# Altium schematic symbol library Connector.SchLib: 365 symbols (part 2 of 4)
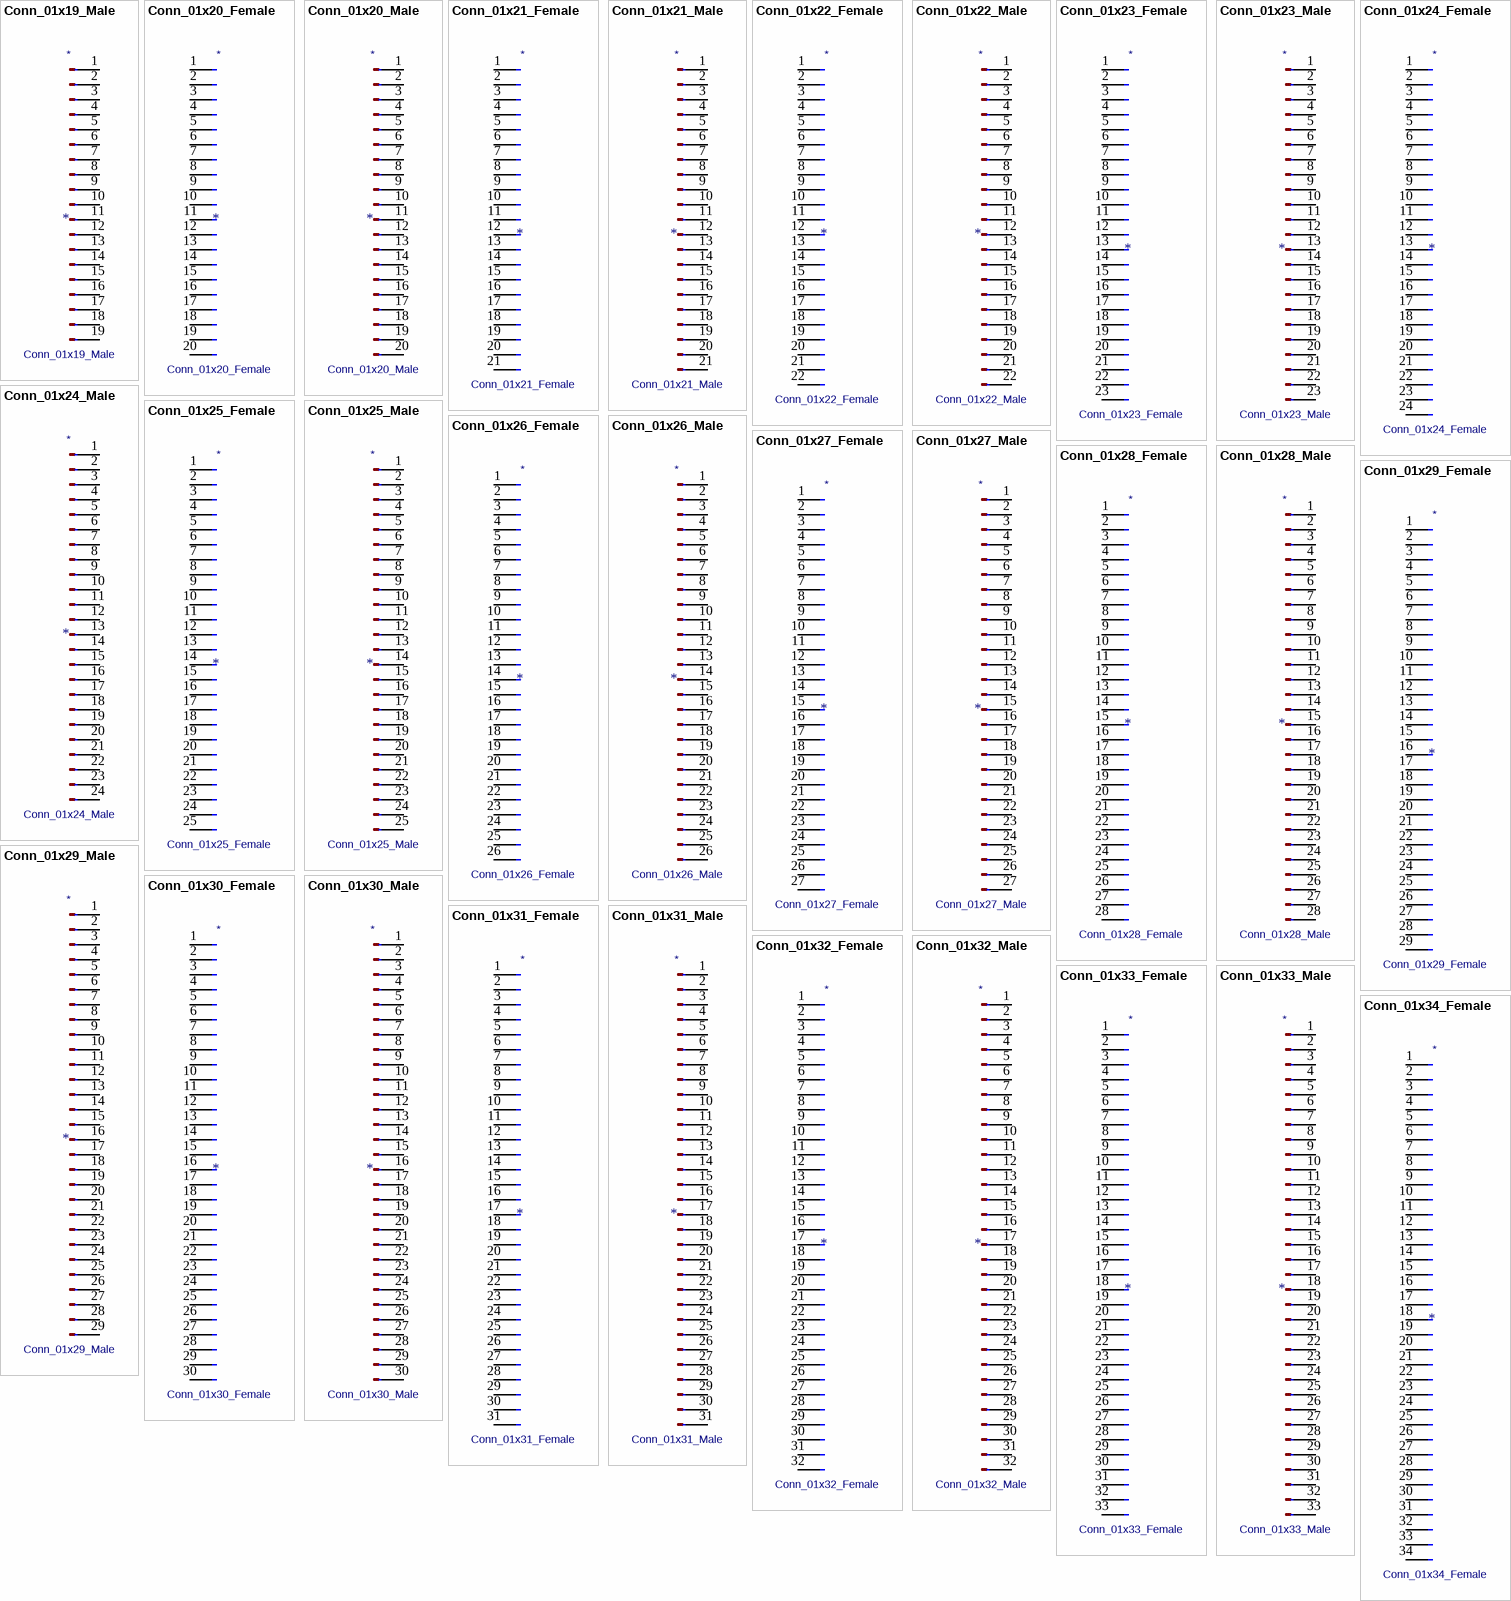
[diagram p15: symbols Conn_01x19_Male to Conn_01x34_Female]

## Conn_01x19_Male
designator *  value Conn_01x19_Male
ki_keywords: connector; ki_description: Generic connector, single row, 01x19, script generated (kicad-library-utils/schlib/autogen/connector/); ki_fp_filters: Connector*:*_1x??_*; Supplier: ~
pins: 1 Pin_1, 2 Pin_2, 3 Pin_3, 4 Pin_4, 5 Pin_5, 6 Pin_6, 7 Pin_7, 8 Pin_8, 9 Pin_9, 10 Pin_10, 11 Pin_11, 12 Pin_12, 13 Pin_13, 14 Pin_14, 15 Pin_15, 16 Pin_16, 17 Pin_17, 18 Pin_18, 19 Pin_19

## Conn_01x20_Female
designator *  value Conn_01x20_Female
ki_keywords: connector; ki_description: Generic connector, single row, 01x20, script generated (kicad-library-utils/schlib/autogen/connector/); ki_fp_filters: Connector*:*_1x??_*; Supplier: ~
pins: 1 Pin_1, 2 Pin_2, 3 Pin_3, 4 Pin_4, 5 Pin_5, 6 Pin_6, 7 Pin_7, 8 Pin_8, 9 Pin_9, 10 Pin_10, 11 Pin_11, 12 Pin_12, 13 Pin_13, 14 Pin_14, 15 Pin_15, 16 Pin_16, 17 Pin_17, 18 Pin_18, 19 Pin_19, 20 Pin_20

## Conn_01x20_Male
designator *  value Conn_01x20_Male
ki_keywords: connector; ki_description: Generic connector, single row, 01x20, script generated (kicad-library-utils/schlib/autogen/connector/); ki_fp_filters: Connector*:*_1x??_*; Supplier: ~
pins: 1 Pin_1, 2 Pin_2, 3 Pin_3, 4 Pin_4, 5 Pin_5, 6 Pin_6, 7 Pin_7, 8 Pin_8, 9 Pin_9, 10 Pin_10, 11 Pin_11, 12 Pin_12, 13 Pin_13, 14 Pin_14, 15 Pin_15, 16 Pin_16, 17 Pin_17, 18 Pin_18, 19 Pin_19, 20 Pin_20

## Conn_01x21_Female
designator *  value Conn_01x21_Female
ki_keywords: connector; ki_description: Generic connector, single row, 01x21, script generated (kicad-library-utils/schlib/autogen/connector/); ki_fp_filters: Connector*:*_1x??_*; Supplier: ~
pins: 1 Pin_1, 2 Pin_2, 3 Pin_3, 4 Pin_4, 5 Pin_5, 6 Pin_6, 7 Pin_7, 8 Pin_8, 9 Pin_9, 10 Pin_10, 11 Pin_11, 12 Pin_12, 13 Pin_13, 14 Pin_14, 15 Pin_15, 16 Pin_16, 17 Pin_17, 18 Pin_18, 19 Pin_19, 20 Pin_20, 21 Pin_21

## Conn_01x21_Male
designator *  value Conn_01x21_Male
ki_keywords: connector; ki_description: Generic connector, single row, 01x21, script generated (kicad-library-utils/schlib/autogen/connector/); ki_fp_filters: Connector*:*_1x??_*; Supplier: ~
pins: 1 Pin_1, 2 Pin_2, 3 Pin_3, 4 Pin_4, 5 Pin_5, 6 Pin_6, 7 Pin_7, 8 Pin_8, 9 Pin_9, 10 Pin_10, 11 Pin_11, 12 Pin_12, 13 Pin_13, 14 Pin_14, 15 Pin_15, 16 Pin_16, 17 Pin_17, 18 Pin_18, 19 Pin_19, 20 Pin_20, 21 Pin_21

## Conn_01x22_Female
designator *  value Conn_01x22_Female
ki_keywords: connector; ki_description: Generic connector, single row, 01x22, script generated (kicad-library-utils/schlib/autogen/connector/); ki_fp_filters: Connector*:*_1x??_*; Supplier: ~
pins: 1 Pin_1, 2 Pin_2, 3 Pin_3, 4 Pin_4, 5 Pin_5, 6 Pin_6, 7 Pin_7, 8 Pin_8, 9 Pin_9, 10 Pin_10, 11 Pin_11, 12 Pin_12, 13 Pin_13, 14 Pin_14, 15 Pin_15, 16 Pin_16, 17 Pin_17, 18 Pin_18, 19 Pin_19, 20 Pin_20, 21 Pin_21, 22 Pin_22

## Conn_01x22_Male
designator *  value Conn_01x22_Male
ki_keywords: connector; ki_description: Generic connector, single row, 01x22, script generated (kicad-library-utils/schlib/autogen/connector/); ki_fp_filters: Connector*:*_1x??_*; Supplier: ~
pins: 1 Pin_1, 2 Pin_2, 3 Pin_3, 4 Pin_4, 5 Pin_5, 6 Pin_6, 7 Pin_7, 8 Pin_8, 9 Pin_9, 10 Pin_10, 11 Pin_11, 12 Pin_12, 13 Pin_13, 14 Pin_14, 15 Pin_15, 16 Pin_16, 17 Pin_17, 18 Pin_18, 19 Pin_19, 20 Pin_20, 21 Pin_21, 22 Pin_22

## Conn_01x23_Female
designator *  value Conn_01x23_Female
ki_keywords: connector; ki_description: Generic connector, single row, 01x23, script generated (kicad-library-utils/schlib/autogen/connector/); ki_fp_filters: Connector*:*_1x??_*; Supplier: ~
pins: 1 Pin_1, 2 Pin_2, 3 Pin_3, 4 Pin_4, 5 Pin_5, 6 Pin_6, 7 Pin_7, 8 Pin_8, 9 Pin_9, 10 Pin_10, 11 Pin_11, 12 Pin_12, 13 Pin_13, 14 Pin_14, 15 Pin_15, 16 Pin_16, 17 Pin_17, 18 Pin_18, 19 Pin_19, 20 Pin_20, 21 Pin_21, 22 Pin_22, 23 Pin_23

## Conn_01x23_Male
designator *  value Conn_01x23_Male
ki_keywords: connector; ki_description: Generic connector, single row, 01x23, script generated (kicad-library-utils/schlib/autogen/connector/); ki_fp_filters: Connector*:*_1x??_*; Supplier: ~
pins: 1 Pin_1, 2 Pin_2, 3 Pin_3, 4 Pin_4, 5 Pin_5, 6 Pin_6, 7 Pin_7, 8 Pin_8, 9 Pin_9, 10 Pin_10, 11 Pin_11, 12 Pin_12, 13 Pin_13, 14 Pin_14, 15 Pin_15, 16 Pin_16, 17 Pin_17, 18 Pin_18, 19 Pin_19, 20 Pin_20, 21 Pin_21, 22 Pin_22, 23 Pin_23

## Conn_01x24_Female
designator *  value Conn_01x24_Female
ki_keywords: connector; ki_description: Generic connector, single row, 01x24, script generated (kicad-library-utils/schlib/autogen/connector/); ki_fp_filters: Connector*:*_1x??_*; Supplier: ~
pins: 1 Pin_1, 2 Pin_2, 3 Pin_3, 4 Pin_4, 5 Pin_5, 6 Pin_6, 7 Pin_7, 8 Pin_8, 9 Pin_9, 10 Pin_10, 11 Pin_11, 12 Pin_12, 13 Pin_13, 14 Pin_14, 15 Pin_15, 16 Pin_16, 17 Pin_17, 18 Pin_18, 19 Pin_19, 20 Pin_20, 21 Pin_21, 22 Pin_22, 23 Pin_23, 24 Pin_24

## Conn_01x24_Male
designator *  value Conn_01x24_Male
ki_keywords: connector; ki_description: Generic connector, single row, 01x24, script generated (kicad-library-utils/schlib/autogen/connector/); ki_fp_filters: Connector*:*_1x??_*; Supplier: ~
pins: 1 Pin_1, 2 Pin_2, 3 Pin_3, 4 Pin_4, 5 Pin_5, 6 Pin_6, 7 Pin_7, 8 Pin_8, 9 Pin_9, 10 Pin_10, 11 Pin_11, 12 Pin_12, 13 Pin_13, 14 Pin_14, 15 Pin_15, 16 Pin_16, 17 Pin_17, 18 Pin_18, 19 Pin_19, 20 Pin_20, 21 Pin_21, 22 Pin_22, 23 Pin_23, 24 Pin_24

## Conn_01x25_Female
designator *  value Conn_01x25_Female
ki_keywords: connector; ki_description: Generic connector, single row, 01x25, script generated (kicad-library-utils/schlib/autogen/connector/); ki_fp_filters: Connector*:*_1x??_*; Supplier: ~
pins: 1 Pin_1, 2 Pin_2, 3 Pin_3, 4 Pin_4, 5 Pin_5, 6 Pin_6, 7 Pin_7, 8 Pin_8, 9 Pin_9, 10 Pin_10, 11 Pin_11, 12 Pin_12, 13 Pin_13, 14 Pin_14, 15 Pin_15, 16 Pin_16, 17 Pin_17, 18 Pin_18, 19 Pin_19, 20 Pin_20, 21 Pin_21, 22 Pin_22, 23 Pin_23, 24 Pin_24, 25 Pin_25

## Conn_01x25_Male
designator *  value Conn_01x25_Male
ki_keywords: connector; ki_description: Generic connector, single row, 01x25, script generated (kicad-library-utils/schlib/autogen/connector/); ki_fp_filters: Connector*:*_1x??_*; Supplier: ~
pins: 1 Pin_1, 2 Pin_2, 3 Pin_3, 4 Pin_4, 5 Pin_5, 6 Pin_6, 7 Pin_7, 8 Pin_8, 9 Pin_9, 10 Pin_10, 11 Pin_11, 12 Pin_12, 13 Pin_13, 14 Pin_14, 15 Pin_15, 16 Pin_16, 17 Pin_17, 18 Pin_18, 19 Pin_19, 20 Pin_20, 21 Pin_21, 22 Pin_22, 23 Pin_23, 24 Pin_24, 25 Pin_25

## Conn_01x26_Female
designator *  value Conn_01x26_Female
ki_keywords: connector; ki_description: Generic connector, single row, 01x26, script generated (kicad-library-utils/schlib/autogen/connector/); ki_fp_filters: Connector*:*_1x??_*; Supplier: ~
pins: 1 Pin_1, 2 Pin_2, 3 Pin_3, 4 Pin_4, 5 Pin_5, 6 Pin_6, 7 Pin_7, 8 Pin_8, 9 Pin_9, 10 Pin_10, 11 Pin_11, 12 Pin_12, 13 Pin_13, 14 Pin_14, 15 Pin_15, 16 Pin_16, 17 Pin_17, 18 Pin_18, 19 Pin_19, 20 Pin_20, 21 Pin_21, 22 Pin_22, 23 Pin_23, 24 Pin_24, 25 Pin_25, 26 Pin_26

## Conn_01x26_Male
designator *  value Conn_01x26_Male
ki_keywords: connector; ki_description: Generic connector, single row, 01x26, script generated (kicad-library-utils/schlib/autogen/connector/); ki_fp_filters: Connector*:*_1x??_*; Supplier: ~
pins: 1 Pin_1, 2 Pin_2, 3 Pin_3, 4 Pin_4, 5 Pin_5, 6 Pin_6, 7 Pin_7, 8 Pin_8, 9 Pin_9, 10 Pin_10, 11 Pin_11, 12 Pin_12, 13 Pin_13, 14 Pin_14, 15 Pin_15, 16 Pin_16, 17 Pin_17, 18 Pin_18, 19 Pin_19, 20 Pin_20, 21 Pin_21, 22 Pin_22, 23 Pin_23, 24 Pin_24, 25 Pin_25, 26 Pin_26

## Conn_01x27_Female
designator *  value Conn_01x27_Female
ki_keywords: connector; ki_description: Generic connector, single row, 01x27, script generated (kicad-library-utils/schlib/autogen/connector/); ki_fp_filters: Connector*:*_1x??_*; Supplier: ~
pins: 1 Pin_1, 2 Pin_2, 3 Pin_3, 4 Pin_4, 5 Pin_5, 6 Pin_6, 7 Pin_7, 8 Pin_8, 9 Pin_9, 10 Pin_10, 11 Pin_11, 12 Pin_12, 13 Pin_13, 14 Pin_14, 15 Pin_15, 16 Pin_16, 17 Pin_17, 18 Pin_18, 19 Pin_19, 20 Pin_20, 21 Pin_21, 22 Pin_22, 23 Pin_23, 24 Pin_24, 25 Pin_25, 26 Pin_26, 27 Pin_27

## Conn_01x27_Male
designator *  value Conn_01x27_Male
ki_keywords: connector; ki_description: Generic connector, single row, 01x27, script generated (kicad-library-utils/schlib/autogen/connector/); ki_fp_filters: Connector*:*_1x??_*; Supplier: ~
pins: 1 Pin_1, 2 Pin_2, 3 Pin_3, 4 Pin_4, 5 Pin_5, 6 Pin_6, 7 Pin_7, 8 Pin_8, 9 Pin_9, 10 Pin_10, 11 Pin_11, 12 Pin_12, 13 Pin_13, 14 Pin_14, 15 Pin_15, 16 Pin_16, 17 Pin_17, 18 Pin_18, 19 Pin_19, 20 Pin_20, 21 Pin_21, 22 Pin_22, 23 Pin_23, 24 Pin_24, 25 Pin_25, 26 Pin_26, 27 Pin_27

## Conn_01x28_Female
designator *  value Conn_01x28_Female
ki_keywords: connector; ki_description: Generic connector, single row, 01x28, script generated (kicad-library-utils/schlib/autogen/connector/); ki_fp_filters: Connector*:*_1x??_*; Supplier: ~
pins: 1 Pin_1, 2 Pin_2, 3 Pin_3, 4 Pin_4, 5 Pin_5, 6 Pin_6, 7 Pin_7, 8 Pin_8, 9 Pin_9, 10 Pin_10, 11 Pin_11, 12 Pin_12, 13 Pin_13, 14 Pin_14, 15 Pin_15, 16 Pin_16, 17 Pin_17, 18 Pin_18, 19 Pin_19, 20 Pin_20, 21 Pin_21, 22 Pin_22, 23 Pin_23, 24 Pin_24, 25 Pin_25, 26 Pin_26, 27 Pin_27, 28 Pin_28

## Conn_01x28_Male
designator *  value Conn_01x28_Male
ki_keywords: connector; ki_description: Generic connector, single row, 01x28, script generated (kicad-library-utils/schlib/autogen/connector/); ki_fp_filters: Connector*:*_1x??_*; Supplier: ~
pins: 1 Pin_1, 2 Pin_2, 3 Pin_3, 4 Pin_4, 5 Pin_5, 6 Pin_6, 7 Pin_7, 8 Pin_8, 9 Pin_9, 10 Pin_10, 11 Pin_11, 12 Pin_12, 13 Pin_13, 14 Pin_14, 15 Pin_15, 16 Pin_16, 17 Pin_17, 18 Pin_18, 19 Pin_19, 20 Pin_20, 21 Pin_21, 22 Pin_22, 23 Pin_23, 24 Pin_24, 25 Pin_25, 26 Pin_26, 27 Pin_27, 28 Pin_28

## Conn_01x29_Female
designator *  value Conn_01x29_Female
ki_keywords: connector; ki_description: Generic connector, single row, 01x29, script generated (kicad-library-utils/schlib/autogen/connector/); ki_fp_filters: Connector*:*_1x??_*; Supplier: ~
pins: 1 Pin_1, 2 Pin_2, 3 Pin_3, 4 Pin_4, 5 Pin_5, 6 Pin_6, 7 Pin_7, 8 Pin_8, 9 Pin_9, 10 Pin_10, 11 Pin_11, 12 Pin_12, 13 Pin_13, 14 Pin_14, 15 Pin_15, 16 Pin_16, 17 Pin_17, 18 Pin_18, 19 Pin_19, 20 Pin_20, 21 Pin_21, 22 Pin_22, 23 Pin_23, 24 Pin_24, 25 Pin_25, 26 Pin_26, 27 Pin_27, 28 Pin_28, 29 Pin_29

## Conn_01x29_Male
designator *  value Conn_01x29_Male
ki_keywords: connector; ki_description: Generic connector, single row, 01x29, script generated (kicad-library-utils/schlib/autogen/connector/); ki_fp_filters: Connector*:*_1x??_*; Supplier: ~
pins: 1 Pin_1, 2 Pin_2, 3 Pin_3, 4 Pin_4, 5 Pin_5, 6 Pin_6, 7 Pin_7, 8 Pin_8, 9 Pin_9, 10 Pin_10, 11 Pin_11, 12 Pin_12, 13 Pin_13, 14 Pin_14, 15 Pin_15, 16 Pin_16, 17 Pin_17, 18 Pin_18, 19 Pin_19, 20 Pin_20, 21 Pin_21, 22 Pin_22, 23 Pin_23, 24 Pin_24, 25 Pin_25, 26 Pin_26, 27 Pin_27, 28 Pin_28, 29 Pin_29

## Conn_01x30_Female
designator *  value Conn_01x30_Female
ki_keywords: connector; ki_description: Generic connector, single row, 01x30, script generated (kicad-library-utils/schlib/autogen/connector/); ki_fp_filters: Connector*:*_1x??_*; Supplier: ~
pins: 1 Pin_1, 2 Pin_2, 3 Pin_3, 4 Pin_4, 5 Pin_5, 6 Pin_6, 7 Pin_7, 8 Pin_8, 9 Pin_9, 10 Pin_10, 11 Pin_11, 12 Pin_12, 13 Pin_13, 14 Pin_14, 15 Pin_15, 16 Pin_16, 17 Pin_17, 18 Pin_18, 19 Pin_19, 20 Pin_20, 21 Pin_21, 22 Pin_22, 23 Pin_23, 24 Pin_24, 25 Pin_25, 26 Pin_26, 27 Pin_27, 28 Pin_28, 29 Pin_29, 30 Pin_30

## Conn_01x30_Male
designator *  value Conn_01x30_Male
ki_keywords: connector; ki_description: Generic connector, single row, 01x30, script generated (kicad-library-utils/schlib/autogen/connector/); ki_fp_filters: Connector*:*_1x??_*; Supplier: ~
pins: 1 Pin_1, 2 Pin_2, 3 Pin_3, 4 Pin_4, 5 Pin_5, 6 Pin_6, 7 Pin_7, 8 Pin_8, 9 Pin_9, 10 Pin_10, 11 Pin_11, 12 Pin_12, 13 Pin_13, 14 Pin_14, 15 Pin_15, 16 Pin_16, 17 Pin_17, 18 Pin_18, 19 Pin_19, 20 Pin_20, 21 Pin_21, 22 Pin_22, 23 Pin_23, 24 Pin_24, 25 Pin_25, 26 Pin_26, 27 Pin_27, 28 Pin_28, 29 Pin_29, 30 Pin_30

## Conn_01x31_Female
designator *  value Conn_01x31_Female
ki_keywords: connector; ki_description: Generic connector, single row, 01x31, script generated (kicad-library-utils/schlib/autogen/connector/); ki_fp_filters: Connector*:*_1x??_*; Supplier: ~
pins: 1 Pin_1, 2 Pin_2, 3 Pin_3, 4 Pin_4, 5 Pin_5, 6 Pin_6, 7 Pin_7, 8 Pin_8, 9 Pin_9, 10 Pin_10, 11 Pin_11, 12 Pin_12, 13 Pin_13, 14 Pin_14, 15 Pin_15, 16 Pin_16, 17 Pin_17, 18 Pin_18, 19 Pin_19, 20 Pin_20, 21 Pin_21, 22 Pin_22, 23 Pin_23, 24 Pin_24, 25 Pin_25, 26 Pin_26, 27 Pin_27, 28 Pin_28, 29 Pin_29, 30 Pin_30, 31 Pin_31

## Conn_01x31_Male
designator *  value Conn_01x31_Male
ki_keywords: connector; ki_description: Generic connector, single row, 01x31, script generated (kicad-library-utils/schlib/autogen/connector/); ki_fp_filters: Connector*:*_1x??_*; Supplier: ~
pins: 1 Pin_1, 2 Pin_2, 3 Pin_3, 4 Pin_4, 5 Pin_5, 6 Pin_6, 7 Pin_7, 8 Pin_8, 9 Pin_9, 10 Pin_10, 11 Pin_11, 12 Pin_12, 13 Pin_13, 14 Pin_14, 15 Pin_15, 16 Pin_16, 17 Pin_17, 18 Pin_18, 19 Pin_19, 20 Pin_20, 21 Pin_21, 22 Pin_22, 23 Pin_23, 24 Pin_24, 25 Pin_25, 26 Pin_26, 27 Pin_27, 28 Pin_28, 29 Pin_29, 30 Pin_30, 31 Pin_31

## Conn_01x32_Female
designator *  value Conn_01x32_Female
ki_keywords: connector; ki_description: Generic connector, single row, 01x32, script generated (kicad-library-utils/schlib/autogen/connector/); ki_fp_filters: Connector*:*_1x??_*; Supplier: ~
pins: 1 Pin_1, 2 Pin_2, 3 Pin_3, 4 Pin_4, 5 Pin_5, 6 Pin_6, 7 Pin_7, 8 Pin_8, 9 Pin_9, 10 Pin_10, 11 Pin_11, 12 Pin_12, 13 Pin_13, 14 Pin_14, 15 Pin_15, 16 Pin_16, 17 Pin_17, 18 Pin_18, 19 Pin_19, 20 Pin_20, 21 Pin_21, 22 Pin_22, 23 Pin_23, 24 Pin_24, 25 Pin_25, 26 Pin_26, 27 Pin_27, 28 Pin_28, 29 Pin_29, 30 Pin_30, 31 Pin_31, 32 Pin_32

## Conn_01x32_Male
designator *  value Conn_01x32_Male
ki_keywords: connector; ki_description: Generic connector, single row, 01x32, script generated (kicad-library-utils/schlib/autogen/connector/); ki_fp_filters: Connector*:*_1x??_*; Supplier: ~
pins: 1 Pin_1, 2 Pin_2, 3 Pin_3, 4 Pin_4, 5 Pin_5, 6 Pin_6, 7 Pin_7, 8 Pin_8, 9 Pin_9, 10 Pin_10, 11 Pin_11, 12 Pin_12, 13 Pin_13, 14 Pin_14, 15 Pin_15, 16 Pin_16, 17 Pin_17, 18 Pin_18, 19 Pin_19, 20 Pin_20, 21 Pin_21, 22 Pin_22, 23 Pin_23, 24 Pin_24, 25 Pin_25, 26 Pin_26, 27 Pin_27, 28 Pin_28, 29 Pin_29, 30 Pin_30, 31 Pin_31, 32 Pin_32

## Conn_01x33_Female
designator *  value Conn_01x33_Female
ki_keywords: connector; ki_description: Generic connector, single row, 01x33, script generated (kicad-library-utils/schlib/autogen/connector/); ki_fp_filters: Connector*:*_1x??_*; Supplier: ~
pins: 1 Pin_1, 2 Pin_2, 3 Pin_3, 4 Pin_4, 5 Pin_5, 6 Pin_6, 7 Pin_7, 8 Pin_8, 9 Pin_9, 10 Pin_10, 11 Pin_11, 12 Pin_12, 13 Pin_13, 14 Pin_14, 15 Pin_15, 16 Pin_16, 17 Pin_17, 18 Pin_18, 19 Pin_19, 20 Pin_20, 21 Pin_21, 22 Pin_22, 23 Pin_23, 24 Pin_24, 25 Pin_25, 26 Pin_26, 27 Pin_27, 28 Pin_28, 29 Pin_29, 30 Pin_30, 31 Pin_31, 32 Pin_32, 33 Pin_33

## Conn_01x33_Male
designator *  value Conn_01x33_Male
ki_keywords: connector; ki_description: Generic connector, single row, 01x33, script generated (kicad-library-utils/schlib/autogen/connector/); ki_fp_filters: Connector*:*_1x??_*; Supplier: ~
pins: 1 Pin_1, 2 Pin_2, 3 Pin_3, 4 Pin_4, 5 Pin_5, 6 Pin_6, 7 Pin_7, 8 Pin_8, 9 Pin_9, 10 Pin_10, 11 Pin_11, 12 Pin_12, 13 Pin_13, 14 Pin_14, 15 Pin_15, 16 Pin_16, 17 Pin_17, 18 Pin_18, 19 Pin_19, 20 Pin_20, 21 Pin_21, 22 Pin_22, 23 Pin_23, 24 Pin_24, 25 Pin_25, 26 Pin_26, 27 Pin_27, 28 Pin_28, 29 Pin_29, 30 Pin_30, 31 Pin_31, 32 Pin_32, 33 Pin_33

## Conn_01x34_Female
designator *  value Conn_01x34_Female
ki_keywords: connector; ki_description: Generic connector, single row, 01x34, script generated (kicad-library-utils/schlib/autogen/connector/); ki_fp_filters: Connector*:*_1x??_*; Supplier: ~
pins: 1 Pin_1, 2 Pin_2, 3 Pin_3, 4 Pin_4, 5 Pin_5, 6 Pin_6, 7 Pin_7, 8 Pin_8, 9 Pin_9, 10 Pin_10, 11 Pin_11, 12 Pin_12, 13 Pin_13, 14 Pin_14, 15 Pin_15, 16 Pin_16, 17 Pin_17, 18 Pin_18, 19 Pin_19, 20 Pin_20, 21 Pin_21, 22 Pin_22, 23 Pin_23, 24 Pin_24, 25 Pin_25, 26 Pin_26, 27 Pin_27, 28 Pin_28, 29 Pin_29, 30 Pin_30, 31 Pin_31, 32 Pin_32, 33 Pin_33, 34 Pin_34

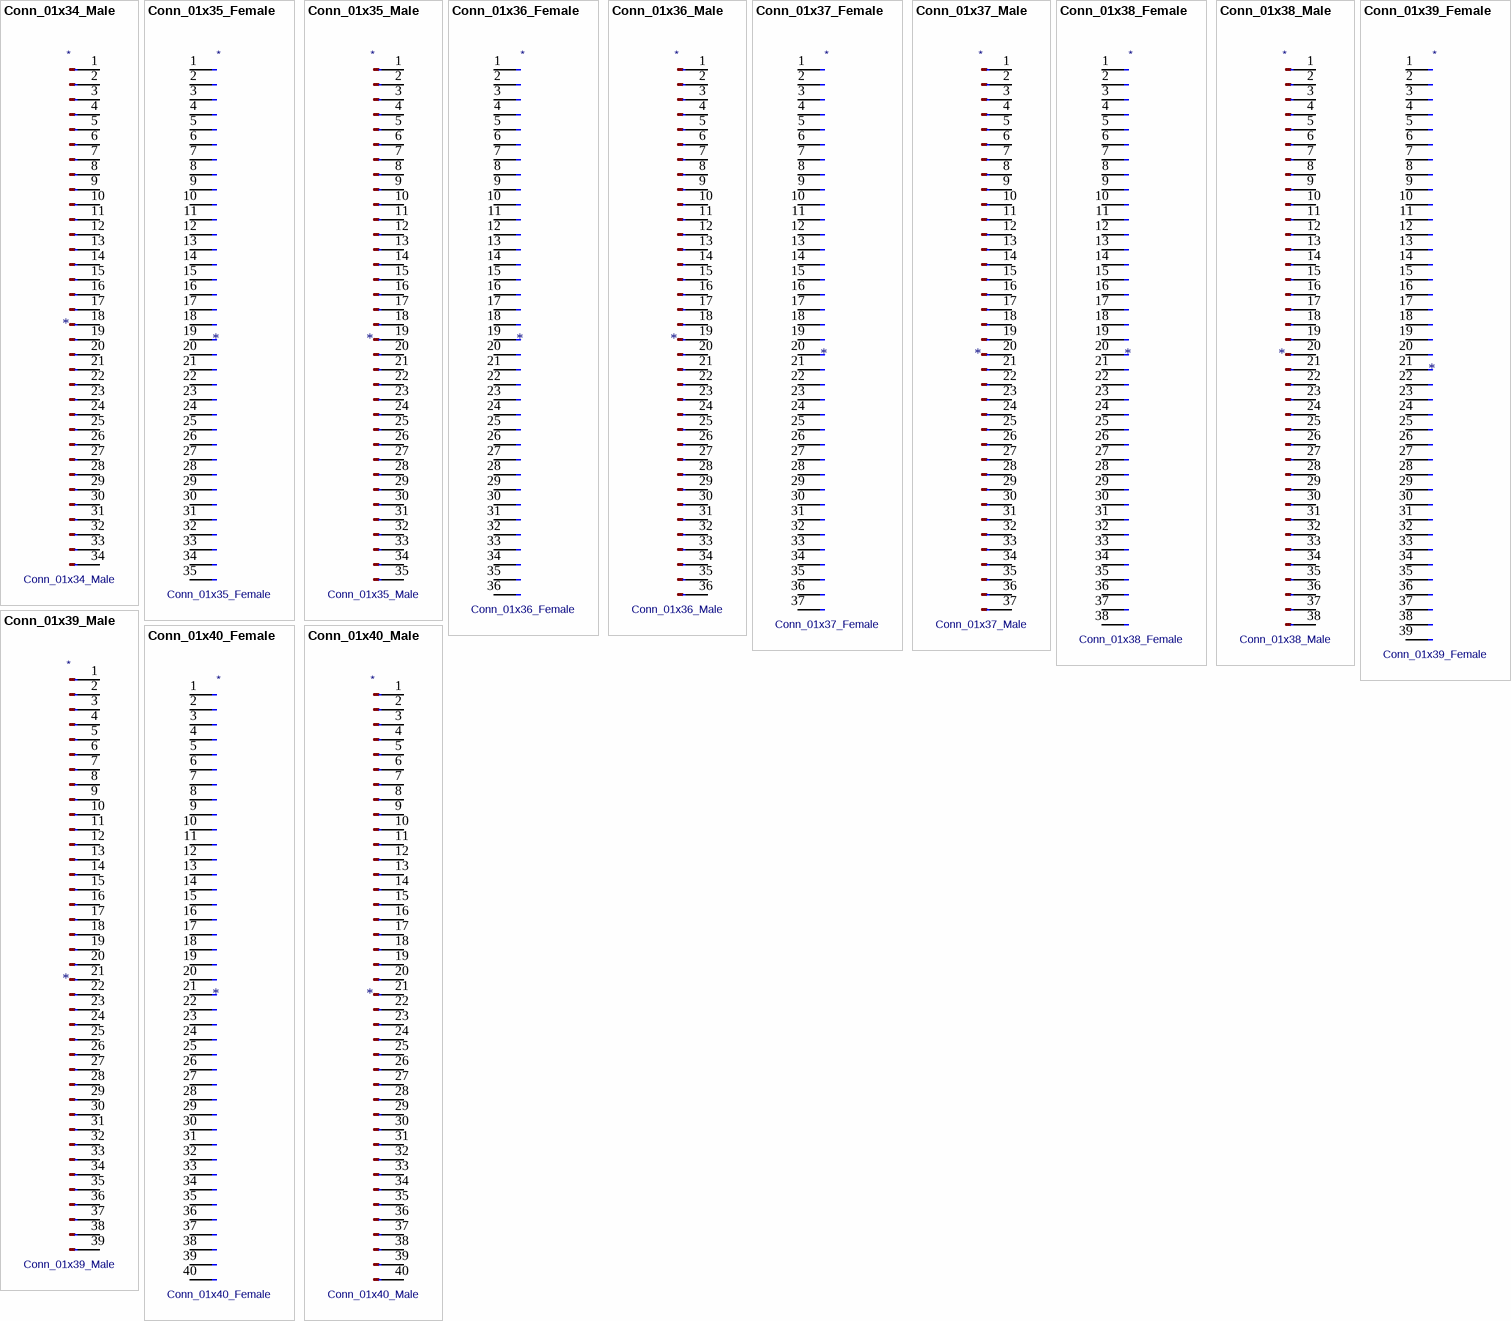
[diagram p5: symbols Conn_01x34_Male to Conn_01x40_Male]

## Conn_01x34_Male
designator *  value Conn_01x34_Male
ki_keywords: connector; ki_description: Generic connector, single row, 01x34, script generated (kicad-library-utils/schlib/autogen/connector/); ki_fp_filters: Connector*:*_1x??_*; Supplier: ~
pins: 1 Pin_1, 2 Pin_2, 3 Pin_3, 4 Pin_4, 5 Pin_5, 6 Pin_6, 7 Pin_7, 8 Pin_8, 9 Pin_9, 10 Pin_10, 11 Pin_11, 12 Pin_12, 13 Pin_13, 14 Pin_14, 15 Pin_15, 16 Pin_16, 17 Pin_17, 18 Pin_18, 19 Pin_19, 20 Pin_20, 21 Pin_21, 22 Pin_22, 23 Pin_23, 24 Pin_24, 25 Pin_25, 26 Pin_26, 27 Pin_27, 28 Pin_28, 29 Pin_29, 30 Pin_30, 31 Pin_31, 32 Pin_32, 33 Pin_33, 34 Pin_34

## Conn_01x35_Female
designator *  value Conn_01x35_Female
ki_keywords: connector; ki_description: Generic connector, single row, 01x35, script generated (kicad-library-utils/schlib/autogen/connector/); ki_fp_filters: Connector*:*_1x??_*; Supplier: ~
pins: 1 Pin_1, 2 Pin_2, 3 Pin_3, 4 Pin_4, 5 Pin_5, 6 Pin_6, 7 Pin_7, 8 Pin_8, 9 Pin_9, 10 Pin_10, 11 Pin_11, 12 Pin_12, 13 Pin_13, 14 Pin_14, 15 Pin_15, 16 Pin_16, 17 Pin_17, 18 Pin_18, 19 Pin_19, 20 Pin_20, 21 Pin_21, 22 Pin_22, 23 Pin_23, 24 Pin_24, 25 Pin_25, 26 Pin_26, 27 Pin_27, 28 Pin_28, 29 Pin_29, 30 Pin_30, 31 Pin_31, 32 Pin_32, 33 Pin_33, 34 Pin_34, 35 Pin_35

## Conn_01x35_Male
designator *  value Conn_01x35_Male
ki_keywords: connector; ki_description: Generic connector, single row, 01x35, script generated (kicad-library-utils/schlib/autogen/connector/); ki_fp_filters: Connector*:*_1x??_*; Supplier: ~
pins: 1 Pin_1, 2 Pin_2, 3 Pin_3, 4 Pin_4, 5 Pin_5, 6 Pin_6, 7 Pin_7, 8 Pin_8, 9 Pin_9, 10 Pin_10, 11 Pin_11, 12 Pin_12, 13 Pin_13, 14 Pin_14, 15 Pin_15, 16 Pin_16, 17 Pin_17, 18 Pin_18, 19 Pin_19, 20 Pin_20, 21 Pin_21, 22 Pin_22, 23 Pin_23, 24 Pin_24, 25 Pin_25, 26 Pin_26, 27 Pin_27, 28 Pin_28, 29 Pin_29, 30 Pin_30, 31 Pin_31, 32 Pin_32, 33 Pin_33, 34 Pin_34, 35 Pin_35

## Conn_01x36_Female
designator *  value Conn_01x36_Female
ki_keywords: connector; ki_description: Generic connector, single row, 01x36, script generated (kicad-library-utils/schlib/autogen/connector/); ki_fp_filters: Connector*:*_1x??_*; Supplier: ~
pins: 1 Pin_1, 2 Pin_2, 3 Pin_3, 4 Pin_4, 5 Pin_5, 6 Pin_6, 7 Pin_7, 8 Pin_8, 9 Pin_9, 10 Pin_10, 11 Pin_11, 12 Pin_12, 13 Pin_13, 14 Pin_14, 15 Pin_15, 16 Pin_16, 17 Pin_17, 18 Pin_18, 19 Pin_19, 20 Pin_20, 21 Pin_21, 22 Pin_22, 23 Pin_23, 24 Pin_24, 25 Pin_25, 26 Pin_26, 27 Pin_27, 28 Pin_28, 29 Pin_29, 30 Pin_30, 31 Pin_31, 32 Pin_32, 33 Pin_33, 34 Pin_34, 35 Pin_35, 36 Pin_36

## Conn_01x36_Male
designator *  value Conn_01x36_Male
ki_keywords: connector; ki_description: Generic connector, single row, 01x36, script generated (kicad-library-utils/schlib/autogen/connector/); ki_fp_filters: Connector*:*_1x??_*; Supplier: ~
pins: 1 Pin_1, 2 Pin_2, 3 Pin_3, 4 Pin_4, 5 Pin_5, 6 Pin_6, 7 Pin_7, 8 Pin_8, 9 Pin_9, 10 Pin_10, 11 Pin_11, 12 Pin_12, 13 Pin_13, 14 Pin_14, 15 Pin_15, 16 Pin_16, 17 Pin_17, 18 Pin_18, 19 Pin_19, 20 Pin_20, 21 Pin_21, 22 Pin_22, 23 Pin_23, 24 Pin_24, 25 Pin_25, 26 Pin_26, 27 Pin_27, 28 Pin_28, 29 Pin_29, 30 Pin_30, 31 Pin_31, 32 Pin_32, 33 Pin_33, 34 Pin_34, 35 Pin_35, 36 Pin_36

## Conn_01x37_Female
designator *  value Conn_01x37_Female
ki_keywords: connector; ki_description: Generic connector, single row, 01x37, script generated (kicad-library-utils/schlib/autogen/connector/); ki_fp_filters: Connector*:*_1x??_*; Supplier: ~
pins: 1 Pin_1, 2 Pin_2, 3 Pin_3, 4 Pin_4, 5 Pin_5, 6 Pin_6, 7 Pin_7, 8 Pin_8, 9 Pin_9, 10 Pin_10, 11 Pin_11, 12 Pin_12, 13 Pin_13, 14 Pin_14, 15 Pin_15, 16 Pin_16, 17 Pin_17, 18 Pin_18, 19 Pin_19, 20 Pin_20, 21 Pin_21, 22 Pin_22, 23 Pin_23, 24 Pin_24, 25 Pin_25, 26 Pin_26, 27 Pin_27, 28 Pin_28, 29 Pin_29, 30 Pin_30, 31 Pin_31, 32 Pin_32, 33 Pin_33, 34 Pin_34, 35 Pin_35, 36 Pin_36, 37 Pin_37

## Conn_01x37_Male
designator *  value Conn_01x37_Male
ki_keywords: connector; ki_description: Generic connector, single row, 01x37, script generated (kicad-library-utils/schlib/autogen/connector/); ki_fp_filters: Connector*:*_1x??_*; Supplier: ~
pins: 1 Pin_1, 2 Pin_2, 3 Pin_3, 4 Pin_4, 5 Pin_5, 6 Pin_6, 7 Pin_7, 8 Pin_8, 9 Pin_9, 10 Pin_10, 11 Pin_11, 12 Pin_12, 13 Pin_13, 14 Pin_14, 15 Pin_15, 16 Pin_16, 17 Pin_17, 18 Pin_18, 19 Pin_19, 20 Pin_20, 21 Pin_21, 22 Pin_22, 23 Pin_23, 24 Pin_24, 25 Pin_25, 26 Pin_26, 27 Pin_27, 28 Pin_28, 29 Pin_29, 30 Pin_30, 31 Pin_31, 32 Pin_32, 33 Pin_33, 34 Pin_34, 35 Pin_35, 36 Pin_36, 37 Pin_37

## Conn_01x38_Female
designator *  value Conn_01x38_Female
ki_keywords: connector; ki_description: Generic connector, single row, 01x38, script generated (kicad-library-utils/schlib/autogen/connector/); ki_fp_filters: Connector*:*_1x??_*; Supplier: ~
pins: 1 Pin_1, 2 Pin_2, 3 Pin_3, 4 Pin_4, 5 Pin_5, 6 Pin_6, 7 Pin_7, 8 Pin_8, 9 Pin_9, 10 Pin_10, 11 Pin_11, 12 Pin_12, 13 Pin_13, 14 Pin_14, 15 Pin_15, 16 Pin_16, 17 Pin_17, 18 Pin_18, 19 Pin_19, 20 Pin_20, 21 Pin_21, 22 Pin_22, 23 Pin_23, 24 Pin_24, 25 Pin_25, 26 Pin_26, 27 Pin_27, 28 Pin_28, 29 Pin_29, 30 Pin_30, 31 Pin_31, 32 Pin_32, 33 Pin_33, 34 Pin_34, 35 Pin_35, 36 Pin_36, 37 Pin_37, 38 Pin_38

## Conn_01x38_Male
designator *  value Conn_01x38_Male
ki_keywords: connector; ki_description: Generic connector, single row, 01x38, script generated (kicad-library-utils/schlib/autogen/connector/); ki_fp_filters: Connector*:*_1x??_*; Supplier: ~
pins: 1 Pin_1, 2 Pin_2, 3 Pin_3, 4 Pin_4, 5 Pin_5, 6 Pin_6, 7 Pin_7, 8 Pin_8, 9 Pin_9, 10 Pin_10, 11 Pin_11, 12 Pin_12, 13 Pin_13, 14 Pin_14, 15 Pin_15, 16 Pin_16, 17 Pin_17, 18 Pin_18, 19 Pin_19, 20 Pin_20, 21 Pin_21, 22 Pin_22, 23 Pin_23, 24 Pin_24, 25 Pin_25, 26 Pin_26, 27 Pin_27, 28 Pin_28, 29 Pin_29, 30 Pin_30, 31 Pin_31, 32 Pin_32, 33 Pin_33, 34 Pin_34, 35 Pin_35, 36 Pin_36, 37 Pin_37, 38 Pin_38

## Conn_01x39_Female
designator *  value Conn_01x39_Female
ki_keywords: connector; ki_description: Generic connector, single row, 01x39, script generated (kicad-library-utils/schlib/autogen/connector/); ki_fp_filters: Connector*:*_1x??_*; Supplier: ~
pins: 1 Pin_1, 2 Pin_2, 3 Pin_3, 4 Pin_4, 5 Pin_5, 6 Pin_6, 7 Pin_7, 8 Pin_8, 9 Pin_9, 10 Pin_10, 11 Pin_11, 12 Pin_12, 13 Pin_13, 14 Pin_14, 15 Pin_15, 16 Pin_16, 17 Pin_17, 18 Pin_18, 19 Pin_19, 20 Pin_20, 21 Pin_21, 22 Pin_22, 23 Pin_23, 24 Pin_24, 25 Pin_25, 26 Pin_26, 27 Pin_27, 28 Pin_28, 29 Pin_29, 30 Pin_30, 31 Pin_31, 32 Pin_32, 33 Pin_33, 34 Pin_34, 35 Pin_35, 36 Pin_36, 37 Pin_37, 38 Pin_38, 39 Pin_39

## Conn_01x39_Male
designator *  value Conn_01x39_Male
ki_keywords: connector; ki_description: Generic connector, single row, 01x39, script generated (kicad-library-utils/schlib/autogen/connector/); ki_fp_filters: Connector*:*_1x??_*; Supplier: ~
pins: 1 Pin_1, 2 Pin_2, 3 Pin_3, 4 Pin_4, 5 Pin_5, 6 Pin_6, 7 Pin_7, 8 Pin_8, 9 Pin_9, 10 Pin_10, 11 Pin_11, 12 Pin_12, 13 Pin_13, 14 Pin_14, 15 Pin_15, 16 Pin_16, 17 Pin_17, 18 Pin_18, 19 Pin_19, 20 Pin_20, 21 Pin_21, 22 Pin_22, 23 Pin_23, 24 Pin_24, 25 Pin_25, 26 Pin_26, 27 Pin_27, 28 Pin_28, 29 Pin_29, 30 Pin_30, 31 Pin_31, 32 Pin_32, 33 Pin_33, 34 Pin_34, 35 Pin_35, 36 Pin_36, 37 Pin_37, 38 Pin_38, 39 Pin_39

## Conn_01x40_Female
designator *  value Conn_01x40_Female
ki_keywords: connector; ki_description: Generic connector, single row, 01x40, script generated (kicad-library-utils/schlib/autogen/connector/); ki_fp_filters: Connector*:*_1x??_*; Supplier: ~
pins: 1 Pin_1, 2 Pin_2, 3 Pin_3, 4 Pin_4, 5 Pin_5, 6 Pin_6, 7 Pin_7, 8 Pin_8, 9 Pin_9, 10 Pin_10, 11 Pin_11, 12 Pin_12, 13 Pin_13, 14 Pin_14, 15 Pin_15, 16 Pin_16, 17 Pin_17, 18 Pin_18, 19 Pin_19, 20 Pin_20, 21 Pin_21, 22 Pin_22, 23 Pin_23, 24 Pin_24, 25 Pin_25, 26 Pin_26, 27 Pin_27, 28 Pin_28, 29 Pin_29, 30 Pin_30, 31 Pin_31, 32 Pin_32, 33 Pin_33, 34 Pin_34, 35 Pin_35, 36 Pin_36, 37 Pin_37, 38 Pin_38, 39 Pin_39, 40 Pin_40

## Conn_01x40_Male
designator *  value Conn_01x40_Male
ki_keywords: connector; ki_description: Generic connector, single row, 01x40, script generated (kicad-library-utils/schlib/autogen/connector/); ki_fp_filters: Connector*:*_1x??_*; Supplier: ~
pins: 1 Pin_1, 2 Pin_2, 3 Pin_3, 4 Pin_4, 5 Pin_5, 6 Pin_6, 7 Pin_7, 8 Pin_8, 9 Pin_9, 10 Pin_10, 11 Pin_11, 12 Pin_12, 13 Pin_13, 14 Pin_14, 15 Pin_15, 16 Pin_16, 17 Pin_17, 18 Pin_18, 19 Pin_19, 20 Pin_20, 21 Pin_21, 22 Pin_22, 23 Pin_23, 24 Pin_24, 25 Pin_25, 26 Pin_26, 27 Pin_27, 28 Pin_28, 29 Pin_29, 30 Pin_30, 31 Pin_31, 32 Pin_32, 33 Pin_33, 34 Pin_34, 35 Pin_35, 36 Pin_36, 37 Pin_37, 38 Pin_38, 39 Pin_39, 40 Pin_40

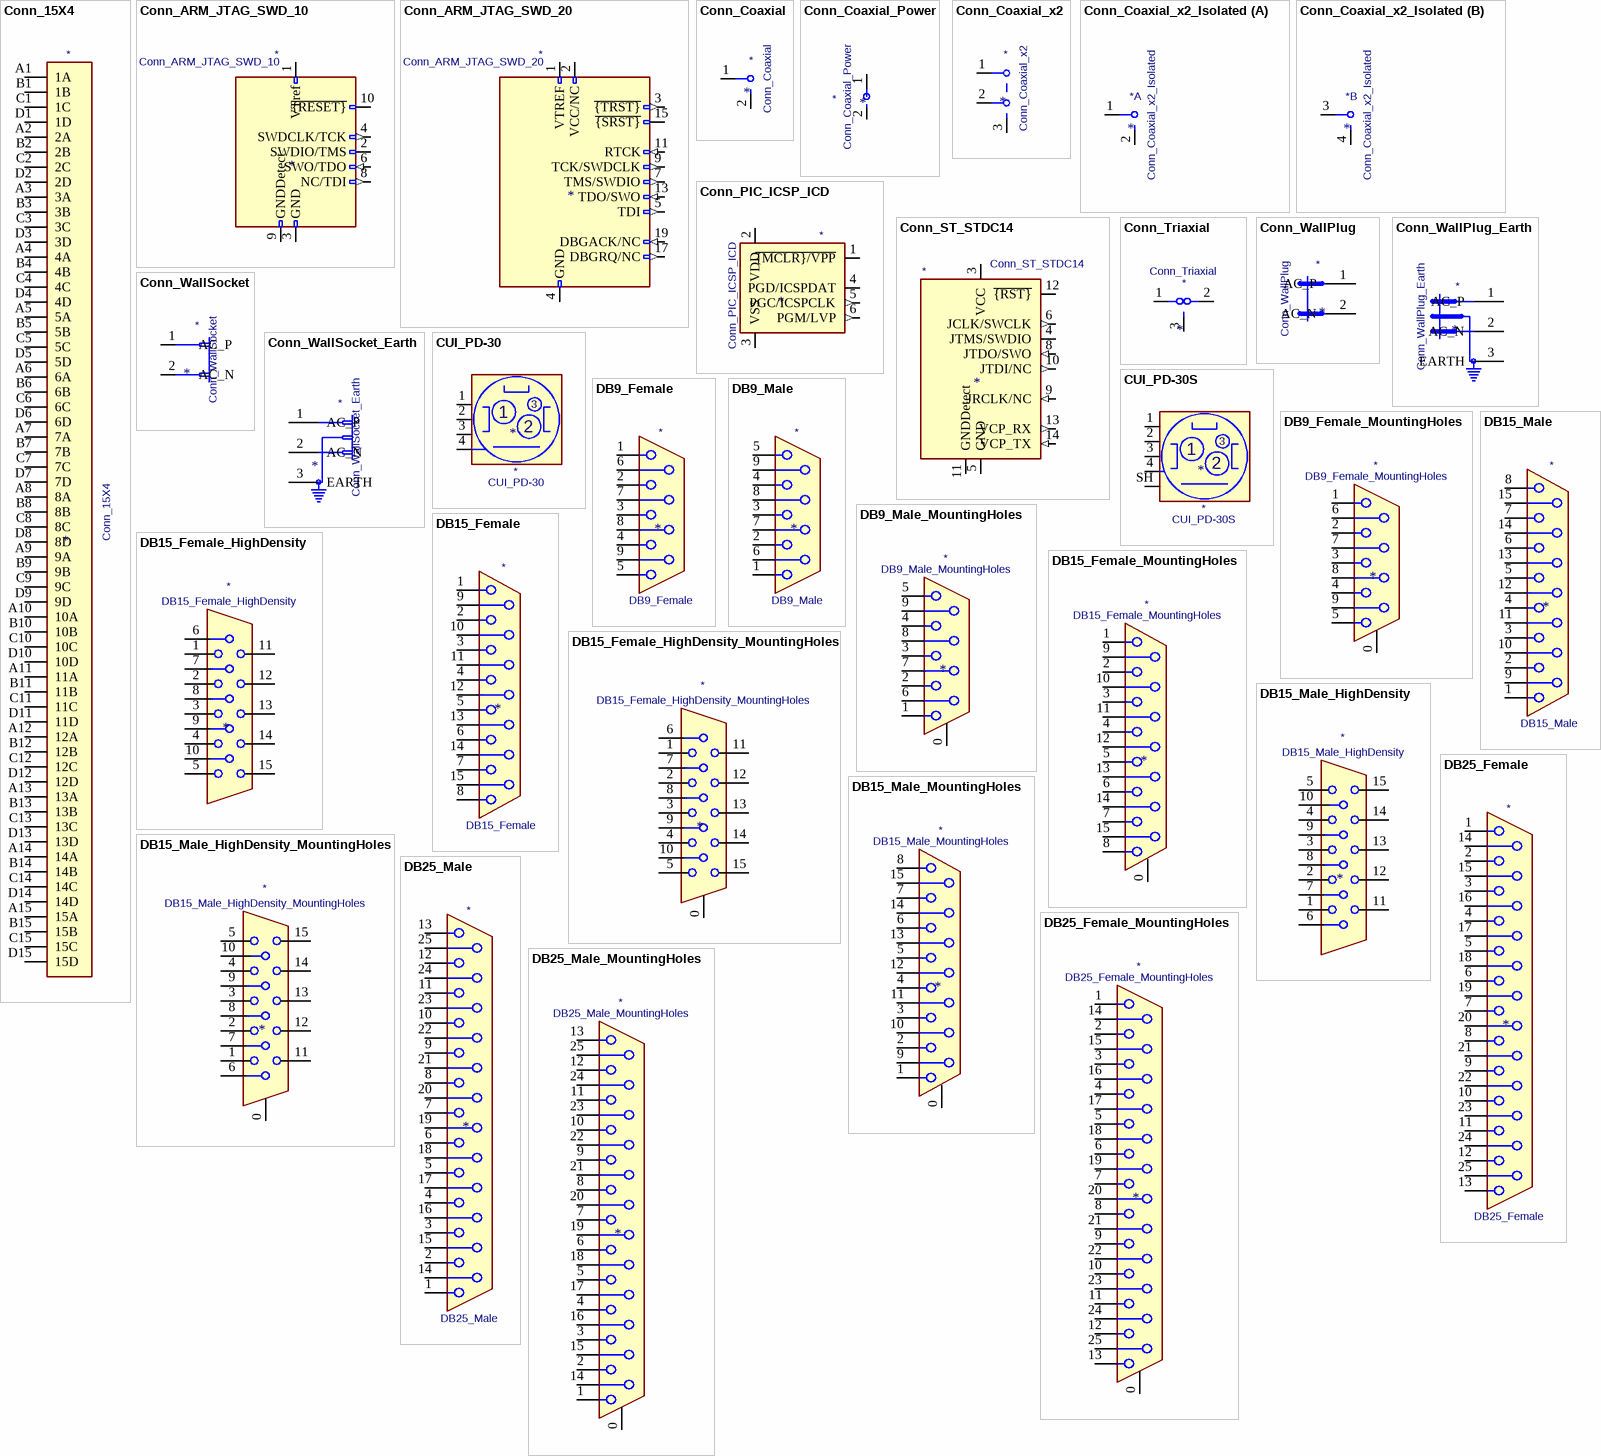
[diagram p6: symbols Conn_15X4 to DB25_Male_MountingHoles]

## Conn_15X4
designator *  value Conn_15X4
ki_keywords: connector; ki_description: Connector Europe, 60 contacts, ranges A,B,C,D; Supplier: ~
pins: A1 1A, A2 2A, A3 3A, A4 4A, A5 5A, A6 6A, A7 7A, A8 8A, A9 9A, A10 10A, A11 11A, A12 12A, A13 13A, A14 14A, A15 15A, B1 1B, B2 2B, B3 3B, B4 4B, B5 5B, B6 6B, B7 7B, B8 8B, B9 9B, B10 10B, B11 11B, B12 12B, B13 13B, B14 14B, B15 15B, C1 1C, C2 2C, C3 3C, C4 4C, C5 5C, C6 6C, C7 7C, C8 8C, C9 9C, C10 10C, C11 11C, C12 12C, C13 13C, C14 14C, C15 15C, D1 1D, D2 2D, D3 3D, D4 4D, D5 5D, D6 6D, D7 7D, D8 8D, D9 9D, D10 10D, D11 11D, D12 12D, D13 13D, D14 14D, D15 15D

## Conn_ARM_JTAG_SWD_10
designator *  value Conn_ARM_JTAG_SWD_10
ki_keywords: Cortex Debug Connector ARM SWD JTAG; ki_description: Cortex Debug Connector, standard ARM Cortex-M SWD and JTAG interface; ki_fp_filters: PinHeader?2x05?P1.27mm*; Supplier: http://infocenter.arm.com/help/topic/com.arm.doc.ddi0314h/DDI0314H_coresight_components_trm.pdf
pins: 1 VTref (power), 2 SWDIO/TMS (io), 3 GND (power), 4 SWDCLK/TCK (out), 5 GND hidden, 6 SWO/TDO (in), 7 KEY (in) hidden, 8 NC/TDI (out), 9 GNDDetect, 10 ~{{RESET}} (oc)

## Conn_ARM_JTAG_SWD_20
designator *  value Conn_ARM_JTAG_SWD_20
ki_keywords: IDC20 Male Connector ARM JTAG SWD; ki_description: Standard IDC20 Male Connector, ARM legacy JTAG and SWD interface; ki_fp_filters: IDC*Header*P2.54mm* PinHeader*2x10*P2.54mm*; Supplier: http://infocenter.arm.com/help/topic/com.arm.doc.dui0499b/DUI0499B_system_design_reference.pdf
pins: 1 VTREF (power), 2 VCC/NC (power), 3 ~{{TRST}} (out), 4 GND (power), 5 TDI (out), 6 GND hidden, 7 TMS/SWDIO (out), 8 GND hidden, 9 TCK/SWDCLK (out), 10 GND hidden, 11 RTCK (in), 12 GND hidden, 13 TDO/SWO (in), 14 GND hidden, 15 ~{{SRST}} (io), 16 GND hidden, 17 DBGRQ/NC (out), 18 GND hidden, 19 DBGACK/NC (in), 20 GND hidden

## Conn_Coaxial
designator *  value Conn_Coaxial
ki_keywords: BNC SMA SMB SMC LEMO coaxial connector CINCH RCA; ki_description: coaxial connector (BNC, SMA, SMB, SMC, Cinch/RCA, LEMO, ...); ki_fp_filters: *BNC* *SMA* *SMB* *SMC* *Cinch* *LEMO*; Supplier: ~
pins: 1 In, 2 Ext

## Conn_Coaxial_Power
designator *  value Conn_Coaxial_Power
ki_keywords: BNC SMA SMB SMC LEMO coaxial connector CINCH RCA; ki_description: coaxial connector (BNC, SMA, SMB, SMC, Cinch/RCA, LEMO, ...); ki_fp_filters: *BNC* *SMA* *SMB* *SMC* *Cinch* *LEMO*; Supplier: ~
pins: 1 In, 2 Ext

## Conn_Coaxial_x2
designator *  value Conn_Coaxial_x2
ki_keywords: BNC SMA SMB SMC LEMO coaxial connector CINCH RCA; ki_description: double coaxial connector (BNC, SMA, SMB, SMC, Cinch/RCA, LEMO, ...); ki_fp_filters: *BNC* *SMA* *SMB* *SMC* *Cinch* *LEMO*; Supplier: ~
pins: 1 IN1, 2 IN2, 3 EXT

## Conn_Coaxial_x2_Isolated
designator *  value Conn_Coaxial_x2_Isolated
ki_keywords: BNC SMA SMB SMC LEMO coaxial connector CINCH RCA; ki_description: coaxial connector (BNC, SMA, SMB, SMC, Cinch/RCA, LEMO, ...); ki_fp_filters: *BNC* *SMA* *SMB* *SMC* *Cinch* *LEMO*; Supplier: ~
part A pins: 1 In1, 2 Ext1
part B pins: 3 In2, 4 Ext2

## Conn_PIC_ICSP_ICD
designator *  value Conn_PIC_ICSP_ICD
ki_keywords: icsp icd pic microchip; ki_description: Microchip PIC In-Circuit Serial Programming/Debugging (ICSP/ICD) connector; ki_fp_filters: PinHeader*1x06*P2.54mm* PinSocket*1x06*P2.54mm*; Supplier: http://ww1.microchip.com/downloads/en/devicedoc/30277d.pdf
pins: 1 ~{{MCLR}/VPP}, 2 VDD, 3 VSS (power), 4 PGD/ICSPDAT (io), 5 PGC/ICSPCLK (out), 6 PGM/LVP (out)

## Conn_ST_STDC14
designator *  value Conn_ST_STDC14
ki_keywords: ST STM32 Cortex Debug Connector ARM SWD JTAG; ki_description: ST Debug Connector, standard ARM Cortex-M SWD and JTAG interface plus UART; ki_fp_filters: PinHeader?2x07?P1.27mm*; Supplier: https://www.st.com/content/ccc/resource/technical/document/user_manual/group1/99/49/91/b6/b2/3a/46/e5/DM00526767/files/DM00526767.pdf/jcr:content/translations/en.DM00526767.pdf
pins: 1 NC (in) hidden, 2 NC (in) hidden, 3 VCC (power), 4 JTMS/SWDIO (io), 5 GND (power), 6 JCLK/SWCLK (out), 7 GND hidden, 8 JTDO/SWO (in), 9 JRCLK/NC (in), 10 JTDI/NC (out), 11 GNDDetect, 12 ~{{RST}} (oc), 13 VCP_RX (out), 14 VCP_TX (in)

## Conn_Triaxial
designator *  value Conn_Triaxial
ki_keywords: LEMO triaxial connector differential LVDS; ki_description: triaxial connector (LEMO 00.302, ...); ki_fp_filters: *LEMO*; Supplier: ~
pins: 1 In1, 2 In2, 3 Ext

## Conn_WallPlug
designator *  value Conn_WallPlug
ki_keywords: wall plug 110VAC 220VAC; ki_description: 3-pin general wall plug, no Earth wire (110VAC, 220VAC); Supplier: ~
pins: 1 AC_P (power), 2 AC_N (power)

## Conn_WallPlug_Earth
designator *  value Conn_WallPlug_Earth
ki_keywords: wall plug 110VAC 220VAC; ki_description: 3-pin general wall plug, with Earth wire (110VAC, 220VAC); Supplier: ~
pins: 1 AC_P (power), 2 AC_N (power), 3 EARTH

## Conn_WallSocket
designator *  value Conn_WallSocket
ki_keywords: wall socket 110VAC 220VAC; ki_description: 3-pin german wall socket, no Earth wire (110VAC, 220VAC); Supplier: ~
pins: 1 AC_P (power), 2 AC_N (power)

## Conn_WallSocket_Earth
designator *  value Conn_WallSocket_Earth
ki_keywords: wall socket 110VAC 220VAC; ki_description: 3-pin german wall socket, with Earth wire (110VAC, 220VAC); Supplier: ~
pins: 1 AC_P (power), 2 AC_N (power), 3 EARTH

## CUI_PD-30
designator *  value CUI_PD-30
ki_keywords: connector 3-pin PD-30 power DIN; ki_description: 3 pin connector, PD-30; ki_fp_filters: CUI*PD*30*; Footprint: Connector:CUI_PD-30; Supplier: http://www.cui.com/product/resource/pd-30.pdf
footprint CUI_PD-30
pins: 1, 2, 3, 4 Shield

## CUI_PD-30S
designator *  value CUI_PD-30S
ki_keywords: connector 3-pin PD-30S power DIN; ki_description: 3 pin connector, PD-30S; ki_fp_filters: CUI*PD*30S*; Footprint: Connector:CUI_PD-30S; Supplier: http://www.cui.com/product/resource/pd-30.pdf
footprint CUI_PD-30S
pins: 1, 2, 3, 4 Shield, SH Shield

## DB9_Female
designator *  value DB9_Female
ki_keywords: connector female D-SUB; ki_description: 9-pin female D-SUB connector; ki_fp_filters: DSUB*Female*; Supplier: ~
pins: 1, 2, 3, 4, 5, 6, 7, 8, 9

## DB9_Female_MountingHoles
designator *  value DB9_Female_MountingHoles
ki_keywords: connector female D-SUB; ki_description: 9-pin female D-SUB connector, Mounting Hole; ki_fp_filters: DSUB*Female*; Supplier: ~
pins: 0 PAD, 1, 2, 3, 4, 5, 6, 7, 8, 9

## DB9_Male
designator *  value DB9_Male
ki_keywords: connector male D-SUB; ki_description: 9-pin male D-SUB connector; ki_fp_filters: DSUB*Male*; Supplier: ~
pins: 1, 2, 3, 4, 5, 6, 7, 8, 9

## DB9_Male_MountingHoles
designator *  value DB9_Male_MountingHoles
ki_keywords: connector male D-SUB; ki_description: 9-pin male D-SUB connector, Mounting Hole; ki_fp_filters: DSUB*Male*; Supplier: ~
pins: 0 PAD, 1, 2, 3, 4, 5, 6, 7, 8, 9

## DB15_Female
designator *  value DB15_Female
ki_keywords: female D-SUB connector; ki_description: 15-pin female D-SUB connector (low-density/2 columns); ki_fp_filters: DSUB*Female*; Supplier: ~
pins: 1, 2, 3, 4, 5, 6, 7, 8, 9 P9, 10 P10, 11 P111, 12 P12, 13 P13, 14 P14, 15 P15

## DB15_Female_HighDensity
designator *  value DB15_Female_HighDensity
ki_keywords: connector db15 VGA female D-SUB; ki_description: 15-pin female D-SUB connector, High density (3 columns), Triple Row, Generic, VGA-connector; ki_fp_filters: DSUB*Female*; Supplier: ~
pins: 1, 2, 3, 4, 5, 6, 7, 8, 9, 10, 11, 12, 13, 14, 15

## DB15_Female_HighDensity_MountingHoles
designator *  value DB15_Female_HighDensity_MountingHoles
ki_keywords: connector db15 female D-SUB VGA; ki_description: 15-pin female D-SUB connector, High density (3 columns), Triple Row, Generic, VGA-connector, Mounting Hole; ki_fp_filters: DSUB*Female*; Supplier: ~
pins: 0, 1, 2, 3, 4, 5, 6, 7, 8, 9, 10, 11, 12, 13, 14, 15

## DB15_Female_MountingHoles
designator *  value DB15_Female_MountingHoles
ki_keywords: female D-SUB connector; ki_description: 15-pin female D-SUB connector (low-density/2 columns), Mounting Hole; ki_fp_filters: DSUB*Female*; Supplier: ~
pins: 0 PAD, 1, 2, 3, 4, 5, 6, 7, 8, 9 P9, 10 P10, 11 P111, 12 P12, 13 P13, 14 P14, 15 P15

## DB15_Male
designator *  value DB15_Male
ki_keywords: male D-SUB connector; ki_description: 15-pin male D-SUB connector (low-density/2 columns); ki_fp_filters: DSUB*Male*; Supplier: ~
pins: 1, 2, 3, 4, 5, 6, 7, 8, 9 P9, 10 P10, 11 P111, 12 P12, 13 P13, 14 P14, 15 P15

## DB15_Male_HighDensity
designator *  value DB15_Male_HighDensity
ki_keywords: connector male VGA D-SUB; ki_description: 15-pin male D-SUB connector, High density (3 columns), Triple Row, Generic, VGA-connector; ki_fp_filters: DSUB*Male*; Supplier: ~
pins: 1, 2, 3, 4, 5, 6, 7, 8, 9, 10, 11, 12, 13, 14, 15

## DB15_Male_HighDensity_MountingHoles
designator *  value DB15_Male_HighDensity_MountingHoles
ki_keywords: connector male D-SUB VGA; ki_description: 15-pin male D-SUB connector, High density (3 columns), Triple Row, Generic, VGA-connector, Mounting Hole; ki_fp_filters: DSUB*Male*; Supplier: ~
pins: 0, 1, 2, 3, 4, 5, 6, 7, 8, 9, 10, 11, 12, 13, 14, 15

## DB15_Male_MountingHoles
designator *  value DB15_Male_MountingHoles
ki_keywords: male D-SUB connector; ki_description: 15-pin male D-SUB connector (low-density/2 columns), Mounting Hole; ki_fp_filters: DSUB*Male*; Supplier: ~
pins: 0 PAD, 1, 2, 3, 4, 5, 6, 7, 8, 9 P9, 10 P10, 11 P111, 12 P12, 13 P13, 14 P14, 15 P15

## DB25_Female
designator *  value DB25_Female
ki_keywords: female D-SUB connector; ki_description: 25-pin female D-SUB connector; ki_fp_filters: DSUB*Female*; Supplier: ~
pins: 1, 2, 3, 4, 5, 6, 7, 8, 9, 10, 11, 12, 13, 14 P14, 15 P15, 16 P16, 17 P17, 18 P18, 19 P19, 20 P20, 21 P21, 22 P22, 23 P23, 24 P24, 25 P25

## DB25_Female_MountingHoles
designator *  value DB25_Female_MountingHoles
ki_keywords: female D-SUB connector; ki_description: 25-pin female D-SUB connector, Mounting Hole; ki_fp_filters: DSUB*Female*; Supplier: ~
pins: 0 PAD, 1, 2, 3, 4, 5, 6, 7, 8, 9, 10, 11, 12, 13, 14 P14, 15 P15, 16 P16, 17 P17, 18 P18, 19 P19, 20 P20, 21 P21, 22 P22, 23 P23, 24 P24, 25 P25

## DB25_Male
designator *  value DB25_Male
ki_keywords: male D-SUB connector; ki_description: 25-pin male D-SUB connector; ki_fp_filters: DSUB*Male*; Supplier: ~
pins: 1, 2, 3, 4, 5, 6, 7, 8, 9, 10, 11, 12, 13, 14 P14, 15 P15, 16 P16, 17 P17, 18 P18, 19 P19, 20 P20, 21 P21, 22 P22, 23 P23, 24 P24, 25 P25

## DB25_Male_MountingHoles
designator *  value DB25_Male_MountingHoles
ki_keywords: male D-SUB connector; ki_description: 25-pin male D-SUB connector, Mounting Hole; ki_fp_filters: DSUB*Male*; Supplier: ~
pins: 0 PAD, 1, 2, 3, 4, 5, 6, 7, 8, 9, 10, 11, 12, 13, 14 P14, 15 P15, 16 P16, 17 P17, 18 P18, 19 P19, 20 P20, 21 P21, 22 P22, 23 P23, 24 P24, 25 P25

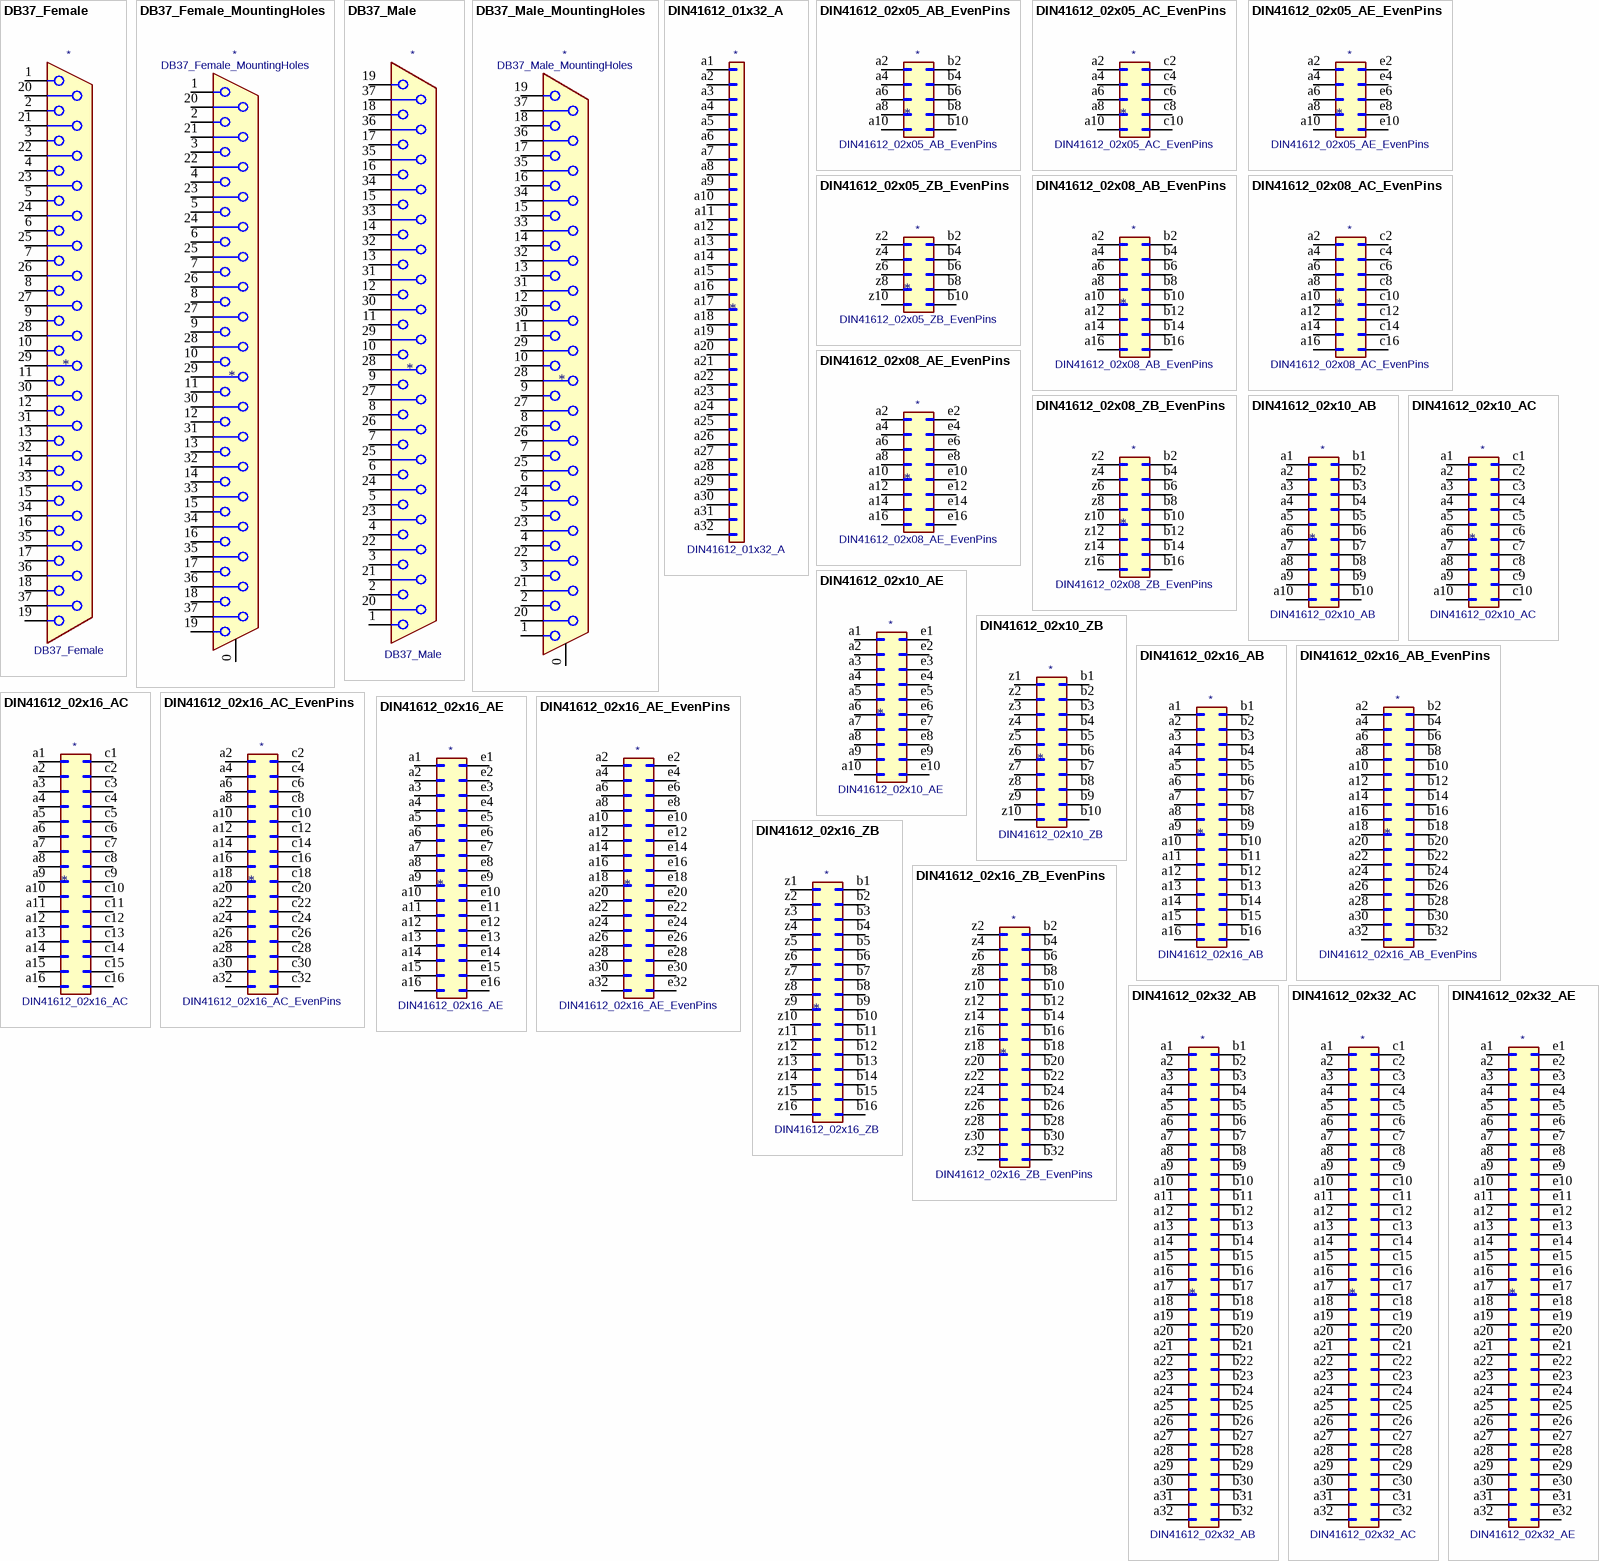
[diagram p7: symbols DB37_Female to DIN41612_02x32_AE]

## DB37_Female
designator *  value DB37_Female
ki_keywords: female D-SUB connector; ki_description: 37-pin female D-SUB connector; ki_fp_filters: DSUB*Female*; Supplier: ~
pins: 1, 2, 3, 4, 5, 6, 7, 8, 9, 10, 11, 12, 13, 14, 15, 16, 17, 18, 19, 20, 21, 22, 23, 24, 25, 26, 27, 28, 29, 30, 31, 32, 33, 34, 35, 36, 37

## DB37_Female_MountingHoles
designator *  value DB37_Female_MountingHoles
ki_keywords: female D-SUB connector; ki_description: 37-pin female D-SUB connector, Mounting Hole; ki_fp_filters: DSUB*Female*; Supplier: ~
pins: 0 PAD, 1, 2, 3, 4, 5, 6, 7, 8, 9, 10, 11, 12, 13, 14, 15, 16, 17, 18, 19, 20, 21, 22, 23, 24, 25, 26, 27, 28, 29, 30, 31, 32, 33, 34, 35, 36, 37

## DB37_Male
designator *  value DB37_Male
ki_keywords: male D-SUB connector; ki_description: 37-pin male D-SUB connector; ki_fp_filters: DSUB*Male*; Supplier: ~
pins: 1, 2, 3, 4, 5, 6, 7, 8, 9, 10, 11, 12, 13, 14, 15, 16, 17, 18, 19, 20, 21, 22, 23, 24, 25, 26, 27, 28, 29, 30, 31, 32, 33, 34, 35, 36, 37

## DB37_Male_MountingHoles
designator *  value DB37_Male_MountingHoles
ki_keywords: male D-SUB connector; ki_description: 37-pin male D-SUB connector, Mounting Hole; ki_fp_filters: DSUB*Male*; Supplier: ~
pins: 0 PAD, 1, 2, 3, 4, 5, 6, 7, 8, 9, 10, 11, 12, 13, 14, 15, 16, 17, 18, 19, 20, 21, 22, 23, 24, 25, 26, 27, 28, 29, 30, 31, 32, 33, 34, 35, 36, 37

## DIN41612_01x32_A
designator *  value DIN41612_01x32_A
ki_keywords: connector; ki_description: DIN41612 connector, single row (A), 01x32, script generated (kicad-library-utils/schlib/autogen/connector/); ki_fp_filters: DIN41612*1x*; Supplier: ~
pins: a1 Pin_a1, a2 Pin_a2, a3 Pin_a3, a4 Pin_a4, a5 Pin_a5, a6 Pin_a6, a7 Pin_a7, a8 Pin_a8, a9 Pin_a9, a10 Pin_a10, a11 Pin_a11, a12 Pin_a12, a13 Pin_a13, a14 Pin_a14, a15 Pin_a15, a16 Pin_a16, a17 Pin_a17, a18 Pin_a18, a19 Pin_a19, a20 Pin_a20, a21 Pin_a21, a22 Pin_a22, a23 Pin_a23, a24 Pin_a24, a25 Pin_a25, a26 Pin_a26, a27 Pin_a27, a28 Pin_a28, a29 Pin_a29, a30 Pin_a30, a31 Pin_a31, a32 Pin_a32

## DIN41612_02x05_AB_EvenPins
designator *  value DIN41612_02x05_AB_EvenPins
ki_keywords: connector; ki_description: DIN41612 connector, double row (AB) even pins only, 02x05, script generated (kicad-library-utils/schlib/autogen/connector/); ki_fp_filters: DIN41612*2x*; Supplier: ~
pins: a2 Pin_a2, a4 Pin_a4, a6 Pin_a6, a8 Pin_a8, a10 Pin_a10, b2 Pin_b2, b4 Pin_b4, b6 Pin_b6, b8 Pin_b8, b10 Pin_b10

## DIN41612_02x05_AC_EvenPins
designator *  value DIN41612_02x05_AC_EvenPins
ki_keywords: connector; ki_description: DIN41612 connector, double row (AC) even pins only, 02x05, script generated (kicad-library-utils/schlib/autogen/connector/); ki_fp_filters: DIN41612*2x*; Supplier: ~
pins: a2 Pin_a2, a4 Pin_a4, a6 Pin_a6, a8 Pin_a8, a10 Pin_a10, c2 Pin_c2, c4 Pin_c4, c6 Pin_c6, c8 Pin_c8, c10 Pin_c10

## DIN41612_02x05_AE_EvenPins
designator *  value DIN41612_02x05_AE_EvenPins
ki_keywords: connector; ki_description: DIN41612 connector, double row (AE) even pins only, 02x05, script generated (kicad-library-utils/schlib/autogen/connector/); ki_fp_filters: DIN41612*2x*; Supplier: ~
pins: a2 Pin_a2, a4 Pin_a4, a6 Pin_a6, a8 Pin_a8, a10 Pin_a10, e2 Pin_e2, e4 Pin_e4, e6 Pin_e6, e8 Pin_e8, e10 Pin_e10

## DIN41612_02x05_ZB_EvenPins
designator *  value DIN41612_02x05_ZB_EvenPins
ki_keywords: connector; ki_description: DIN41612 connector, double row (ZB) even pins only, 02x05, script generated (kicad-library-utils/schlib/autogen/connector/); ki_fp_filters: DIN41612*2x*; Supplier: ~
pins: b2 Pin_b2, b4 Pin_b4, b6 Pin_b6, b8 Pin_b8, b10 Pin_b10, z2 Pin_z2, z4 Pin_z4, z6 Pin_z6, z8 Pin_z8, z10 Pin_z10

## DIN41612_02x08_AB_EvenPins
designator *  value DIN41612_02x08_AB_EvenPins
ki_keywords: connector; ki_description: DIN41612 connector, double row (AB) even pins only, 02x08, script generated (kicad-library-utils/schlib/autogen/connector/); ki_fp_filters: DIN41612*2x*; Supplier: ~
pins: a2 Pin_a2, a4 Pin_a4, a6 Pin_a6, a8 Pin_a8, a10 Pin_a10, a12 Pin_a12, a14 Pin_a14, a16 Pin_a16, b2 Pin_b2, b4 Pin_b4, b6 Pin_b6, b8 Pin_b8, b10 Pin_b10, b12 Pin_b12, b14 Pin_b14, b16 Pin_b16

## DIN41612_02x08_AC_EvenPins
designator *  value DIN41612_02x08_AC_EvenPins
ki_keywords: connector; ki_description: DIN41612 connector, double row (AC) even pins only, 02x08, script generated (kicad-library-utils/schlib/autogen/connector/); ki_fp_filters: DIN41612*2x*; Supplier: ~
pins: a2 Pin_a2, a4 Pin_a4, a6 Pin_a6, a8 Pin_a8, a10 Pin_a10, a12 Pin_a12, a14 Pin_a14, a16 Pin_a16, c2 Pin_c2, c4 Pin_c4, c6 Pin_c6, c8 Pin_c8, c10 Pin_c10, c12 Pin_c12, c14 Pin_c14, c16 Pin_c16

## DIN41612_02x08_AE_EvenPins
designator *  value DIN41612_02x08_AE_EvenPins
ki_keywords: connector; ki_description: DIN41612 connector, double row (AE) even pins only, 02x08, script generated (kicad-library-utils/schlib/autogen/connector/); ki_fp_filters: DIN41612*2x*; Supplier: ~
pins: a2 Pin_a2, a4 Pin_a4, a6 Pin_a6, a8 Pin_a8, a10 Pin_a10, a12 Pin_a12, a14 Pin_a14, a16 Pin_a16, e2 Pin_e2, e4 Pin_e4, e6 Pin_e6, e8 Pin_e8, e10 Pin_e10, e12 Pin_e12, e14 Pin_e14, e16 Pin_e16

## DIN41612_02x08_ZB_EvenPins
designator *  value DIN41612_02x08_ZB_EvenPins
ki_keywords: connector; ki_description: DIN41612 connector, double row (ZB) even pins only, 02x08, script generated (kicad-library-utils/schlib/autogen/connector/); ki_fp_filters: DIN41612*2x*; Supplier: ~
pins: b2 Pin_b2, b4 Pin_b4, b6 Pin_b6, b8 Pin_b8, b10 Pin_b10, b12 Pin_b12, b14 Pin_b14, b16 Pin_b16, z2 Pin_z2, z4 Pin_z4, z6 Pin_z6, z8 Pin_z8, z10 Pin_z10, z12 Pin_z12, z14 Pin_z14, z16 Pin_z16

## DIN41612_02x10_AB
designator *  value DIN41612_02x10_AB
ki_keywords: connector; ki_description: DIN41612 connector, double row (AB), 02x10, script generated (kicad-library-utils/schlib/autogen/connector/); ki_fp_filters: DIN41612*2x*; Supplier: ~
pins: a1 Pin_a1, a2 Pin_a2, a3 Pin_a3, a4 Pin_a4, a5 Pin_a5, a6 Pin_a6, a7 Pin_a7, a8 Pin_a8, a9 Pin_a9, a10 Pin_a10, b1 Pin_b1, b2 Pin_b2, b3 Pin_b3, b4 Pin_b4, b5 Pin_b5, b6 Pin_b6, b7 Pin_b7, b8 Pin_b8, b9 Pin_b9, b10 Pin_b10

## DIN41612_02x10_AC
designator *  value DIN41612_02x10_AC
ki_keywords: connector; ki_description: DIN41612 connector, double row (AC), 02x10, script generated (kicad-library-utils/schlib/autogen/connector/); ki_fp_filters: DIN41612*2x*; Supplier: ~
pins: a1 Pin_a1, a2 Pin_a2, a3 Pin_a3, a4 Pin_a4, a5 Pin_a5, a6 Pin_a6, a7 Pin_a7, a8 Pin_a8, a9 Pin_a9, a10 Pin_a10, c1 Pin_c1, c2 Pin_c2, c3 Pin_c3, c4 Pin_c4, c5 Pin_c5, c6 Pin_c6, c7 Pin_c7, c8 Pin_c8, c9 Pin_c9, c10 Pin_c10

## DIN41612_02x10_AE
designator *  value DIN41612_02x10_AE
ki_keywords: connector; ki_description: DIN41612 connector, double row (AE), 02x10, script generated (kicad-library-utils/schlib/autogen/connector/); ki_fp_filters: DIN41612*2x*; Supplier: ~
pins: a1 Pin_a1, a2 Pin_a2, a3 Pin_a3, a4 Pin_a4, a5 Pin_a5, a6 Pin_a6, a7 Pin_a7, a8 Pin_a8, a9 Pin_a9, a10 Pin_a10, e1 Pin_e1, e2 Pin_e2, e3 Pin_e3, e4 Pin_e4, e5 Pin_e5, e6 Pin_e6, e7 Pin_e7, e8 Pin_e8, e9 Pin_e9, e10 Pin_e10

## DIN41612_02x10_ZB
designator *  value DIN41612_02x10_ZB
ki_keywords: connector; ki_description: DIN41612 connector, double row (ZB), 02x10, script generated (kicad-library-utils/schlib/autogen/connector/); ki_fp_filters: DIN41612*2x*; Supplier: ~
pins: b1 Pin_b1, b2 Pin_b2, b3 Pin_b3, b4 Pin_b4, b5 Pin_b5, b6 Pin_b6, b7 Pin_b7, b8 Pin_b8, b9 Pin_b9, b10 Pin_b10, z1 Pin_z1, z2 Pin_z2, z3 Pin_z3, z4 Pin_z4, z5 Pin_z5, z6 Pin_z6, z7 Pin_z7, z8 Pin_z8, z9 Pin_z9, z10 Pin_z10

## DIN41612_02x16_AB
designator *  value DIN41612_02x16_AB
ki_keywords: connector; ki_description: DIN41612 connector, double row (AB), 02x16, script generated (kicad-library-utils/schlib/autogen/connector/); ki_fp_filters: DIN41612*2x*; Supplier: ~
pins: a1 Pin_a1, a2 Pin_a2, a3 Pin_a3, a4 Pin_a4, a5 Pin_a5, a6 Pin_a6, a7 Pin_a7, a8 Pin_a8, a9 Pin_a9, a10 Pin_a10, a11 Pin_a11, a12 Pin_a12, a13 Pin_a13, a14 Pin_a14, a15 Pin_a15, a16 Pin_a16, b1 Pin_b1, b2 Pin_b2, b3 Pin_b3, b4 Pin_b4, b5 Pin_b5, b6 Pin_b6, b7 Pin_b7, b8 Pin_b8, b9 Pin_b9, b10 Pin_b10, b11 Pin_b11, b12 Pin_b12, b13 Pin_b13, b14 Pin_b14, b15 Pin_b15, b16 Pin_b16

## DIN41612_02x16_AB_EvenPins
designator *  value DIN41612_02x16_AB_EvenPins
ki_keywords: connector; ki_description: DIN41612 connector, double row (AB) even pins only, 02x16, script generated (kicad-library-utils/schlib/autogen/connector/); ki_fp_filters: DIN41612*2x*; Supplier: ~
pins: a2 Pin_a2, a4 Pin_a4, a6 Pin_a6, a8 Pin_a8, a10 Pin_a10, a12 Pin_a12, a14 Pin_a14, a16 Pin_a16, a18 Pin_a18, a20 Pin_a20, a22 Pin_a22, a24 Pin_a24, a26 Pin_a26, a28 Pin_a28, a30 Pin_a30, a32 Pin_a32, b2 Pin_b2, b4 Pin_b4, b6 Pin_b6, b8 Pin_b8, b10 Pin_b10, b12 Pin_b12, b14 Pin_b14, b16 Pin_b16, b18 Pin_b18, b20 Pin_b20, b22 Pin_b22, b24 Pin_b24, b26 Pin_b26, b28 Pin_b28, b30 Pin_b30, b32 Pin_b32

## DIN41612_02x16_AC
designator *  value DIN41612_02x16_AC
ki_keywords: connector; ki_description: DIN41612 connector, double row (AC), 02x16, script generated (kicad-library-utils/schlib/autogen/connector/); ki_fp_filters: DIN41612*2x*; Supplier: ~
pins: a1 Pin_a1, a2 Pin_a2, a3 Pin_a3, a4 Pin_a4, a5 Pin_a5, a6 Pin_a6, a7 Pin_a7, a8 Pin_a8, a9 Pin_a9, a10 Pin_a10, a11 Pin_a11, a12 Pin_a12, a13 Pin_a13, a14 Pin_a14, a15 Pin_a15, a16 Pin_a16, c1 Pin_c1, c2 Pin_c2, c3 Pin_c3, c4 Pin_c4, c5 Pin_c5, c6 Pin_c6, c7 Pin_c7, c8 Pin_c8, c9 Pin_c9, c10 Pin_c10, c11 Pin_c11, c12 Pin_c12, c13 Pin_c13, c14 Pin_c14, c15 Pin_c15, c16 Pin_c16

## DIN41612_02x16_AC_EvenPins
designator *  value DIN41612_02x16_AC_EvenPins
ki_keywords: connector; ki_description: DIN41612 connector, double row (AC) even pins only, 02x16, script generated (kicad-library-utils/schlib/autogen/connector/); ki_fp_filters: DIN41612*2x*; Supplier: ~
pins: a2 Pin_a2, a4 Pin_a4, a6 Pin_a6, a8 Pin_a8, a10 Pin_a10, a12 Pin_a12, a14 Pin_a14, a16 Pin_a16, a18 Pin_a18, a20 Pin_a20, a22 Pin_a22, a24 Pin_a24, a26 Pin_a26, a28 Pin_a28, a30 Pin_a30, a32 Pin_a32, c2 Pin_c2, c4 Pin_c4, c6 Pin_c6, c8 Pin_c8, c10 Pin_c10, c12 Pin_c12, c14 Pin_c14, c16 Pin_c16, c18 Pin_c18, c20 Pin_c20, c22 Pin_c22, c24 Pin_c24, c26 Pin_c26, c28 Pin_c28, c30 Pin_c30, c32 Pin_c32

## DIN41612_02x16_AE
designator *  value DIN41612_02x16_AE
ki_keywords: connector; ki_description: DIN41612 connector, double row (AE), 02x16, script generated (kicad-library-utils/schlib/autogen/connector/); ki_fp_filters: DIN41612*2x*; Supplier: ~
pins: a1 Pin_a1, a2 Pin_a2, a3 Pin_a3, a4 Pin_a4, a5 Pin_a5, a6 Pin_a6, a7 Pin_a7, a8 Pin_a8, a9 Pin_a9, a10 Pin_a10, a11 Pin_a11, a12 Pin_a12, a13 Pin_a13, a14 Pin_a14, a15 Pin_a15, a16 Pin_a16, e1 Pin_e1, e2 Pin_e2, e3 Pin_e3, e4 Pin_e4, e5 Pin_e5, e6 Pin_e6, e7 Pin_e7, e8 Pin_e8, e9 Pin_e9, e10 Pin_e10, e11 Pin_e11, e12 Pin_e12, e13 Pin_e13, e14 Pin_e14, e15 Pin_e15, e16 Pin_e16

## DIN41612_02x16_AE_EvenPins
designator *  value DIN41612_02x16_AE_EvenPins
ki_keywords: connector; ki_description: DIN41612 connector, double row (AE) even pins only, 02x16, script generated (kicad-library-utils/schlib/autogen/connector/); ki_fp_filters: DIN41612*2x*; Supplier: ~
pins: a2 Pin_a2, a4 Pin_a4, a6 Pin_a6, a8 Pin_a8, a10 Pin_a10, a12 Pin_a12, a14 Pin_a14, a16 Pin_a16, a18 Pin_a18, a20 Pin_a20, a22 Pin_a22, a24 Pin_a24, a26 Pin_a26, a28 Pin_a28, a30 Pin_a30, a32 Pin_a32, e2 Pin_e2, e4 Pin_e4, e6 Pin_e6, e8 Pin_e8, e10 Pin_e10, e12 Pin_e12, e14 Pin_e14, e16 Pin_e16, e18 Pin_e18, e20 Pin_e20, e22 Pin_e22, e24 Pin_e24, e26 Pin_e26, e28 Pin_e28, e30 Pin_e30, e32 Pin_e32

## DIN41612_02x16_ZB
designator *  value DIN41612_02x16_ZB
ki_keywords: connector; ki_description: DIN41612 connector, double row (ZB), 02x16, script generated (kicad-library-utils/schlib/autogen/connector/); ki_fp_filters: DIN41612*2x*; Supplier: ~
pins: b1 Pin_b1, b2 Pin_b2, b3 Pin_b3, b4 Pin_b4, b5 Pin_b5, b6 Pin_b6, b7 Pin_b7, b8 Pin_b8, b9 Pin_b9, b10 Pin_b10, b11 Pin_b11, b12 Pin_b12, b13 Pin_b13, b14 Pin_b14, b15 Pin_b15, b16 Pin_b16, z1 Pin_z1, z2 Pin_z2, z3 Pin_z3, z4 Pin_z4, z5 Pin_z5, z6 Pin_z6, z7 Pin_z7, z8 Pin_z8, z9 Pin_z9, z10 Pin_z10, z11 Pin_z11, z12 Pin_z12, z13 Pin_z13, z14 Pin_z14, z15 Pin_z15, z16 Pin_z16

## DIN41612_02x16_ZB_EvenPins
designator *  value DIN41612_02x16_ZB_EvenPins
ki_keywords: connector; ki_description: DIN41612 connector, double row (ZB) even pins only, 02x16, script generated (kicad-library-utils/schlib/autogen/connector/); ki_fp_filters: DIN41612*2x*; Supplier: ~
pins: b2 Pin_b2, b4 Pin_b4, b6 Pin_b6, b8 Pin_b8, b10 Pin_b10, b12 Pin_b12, b14 Pin_b14, b16 Pin_b16, b18 Pin_b18, b20 Pin_b20, b22 Pin_b22, b24 Pin_b24, b26 Pin_b26, b28 Pin_b28, b30 Pin_b30, b32 Pin_b32, z2 Pin_z2, z4 Pin_z4, z6 Pin_z6, z8 Pin_z8, z10 Pin_z10, z12 Pin_z12, z14 Pin_z14, z16 Pin_z16, z18 Pin_z18, z20 Pin_z20, z22 Pin_z22, z24 Pin_z24, z26 Pin_z26, z28 Pin_z28, z30 Pin_z30, z32 Pin_z32

## DIN41612_02x32_AB
designator *  value DIN41612_02x32_AB
ki_keywords: connector; ki_description: DIN41612 connector, double row (AB), 02x32, script generated (kicad-library-utils/schlib/autogen/connector/); ki_fp_filters: DIN41612*2x*; Supplier: ~
pins: a1 Pin_a1, a2 Pin_a2, a3 Pin_a3, a4 Pin_a4, a5 Pin_a5, a6 Pin_a6, a7 Pin_a7, a8 Pin_a8, a9 Pin_a9, a10 Pin_a10, a11 Pin_a11, a12 Pin_a12, a13 Pin_a13, a14 Pin_a14, a15 Pin_a15, a16 Pin_a16, a17 Pin_a17, a18 Pin_a18, a19 Pin_a19, a20 Pin_a20, a21 Pin_a21, a22 Pin_a22, a23 Pin_a23, a24 Pin_a24, a25 Pin_a25, a26 Pin_a26, a27 Pin_a27, a28 Pin_a28, a29 Pin_a29, a30 Pin_a30, a31 Pin_a31, a32 Pin_a32, b1 Pin_b1, b2 Pin_b2, b3 Pin_b3, b4 Pin_b4, b5 Pin_b5, b6 Pin_b6, b7 Pin_b7, b8 Pin_b8, b9 Pin_b9, b10 Pin_b10, b11 Pin_b11, b12 Pin_b12, b13 Pin_b13, b14 Pin_b14, b15 Pin_b15, b16 Pin_b16, b17 Pin_b17, b18 Pin_b18, b19 Pin_b19, b20 Pin_b20, b21 Pin_b21, b22 Pin_b22, b23 Pin_b23, b24 Pin_b24, b25 Pin_b25, b26 Pin_b26, b27 Pin_b27, b28 Pin_b28, b29 Pin_b29, b30 Pin_b30, b31 Pin_b31, b32 Pin_b32

## DIN41612_02x32_AC
designator *  value DIN41612_02x32_AC
ki_keywords: connector; ki_description: DIN41612 connector, double row (AC), 02x32, script generated (kicad-library-utils/schlib/autogen/connector/); ki_fp_filters: DIN41612*2x*; Supplier: ~
pins: a1 Pin_a1, a2 Pin_a2, a3 Pin_a3, a4 Pin_a4, a5 Pin_a5, a6 Pin_a6, a7 Pin_a7, a8 Pin_a8, a9 Pin_a9, a10 Pin_a10, a11 Pin_a11, a12 Pin_a12, a13 Pin_a13, a14 Pin_a14, a15 Pin_a15, a16 Pin_a16, a17 Pin_a17, a18 Pin_a18, a19 Pin_a19, a20 Pin_a20, a21 Pin_a21, a22 Pin_a22, a23 Pin_a23, a24 Pin_a24, a25 Pin_a25, a26 Pin_a26, a27 Pin_a27, a28 Pin_a28, a29 Pin_a29, a30 Pin_a30, a31 Pin_a31, a32 Pin_a32, c1 Pin_c1, c2 Pin_c2, c3 Pin_c3, c4 Pin_c4, c5 Pin_c5, c6 Pin_c6, c7 Pin_c7, c8 Pin_c8, c9 Pin_c9, c10 Pin_c10, c11 Pin_c11, c12 Pin_c12, c13 Pin_c13, c14 Pin_c14, c15 Pin_c15, c16 Pin_c16, c17 Pin_c17, c18 Pin_c18, c19 Pin_c19, c20 Pin_c20, c21 Pin_c21, c22 Pin_c22, c23 Pin_c23, c24 Pin_c24, c25 Pin_c25, c26 Pin_c26, c27 Pin_c27, c28 Pin_c28, c29 Pin_c29, c30 Pin_c30, c31 Pin_c31, c32 Pin_c32